# Altium integrated library inductor-neosid.IntLib: 250 symbols
Pins are listed as number, name and electrical type; pins without a type are passive.

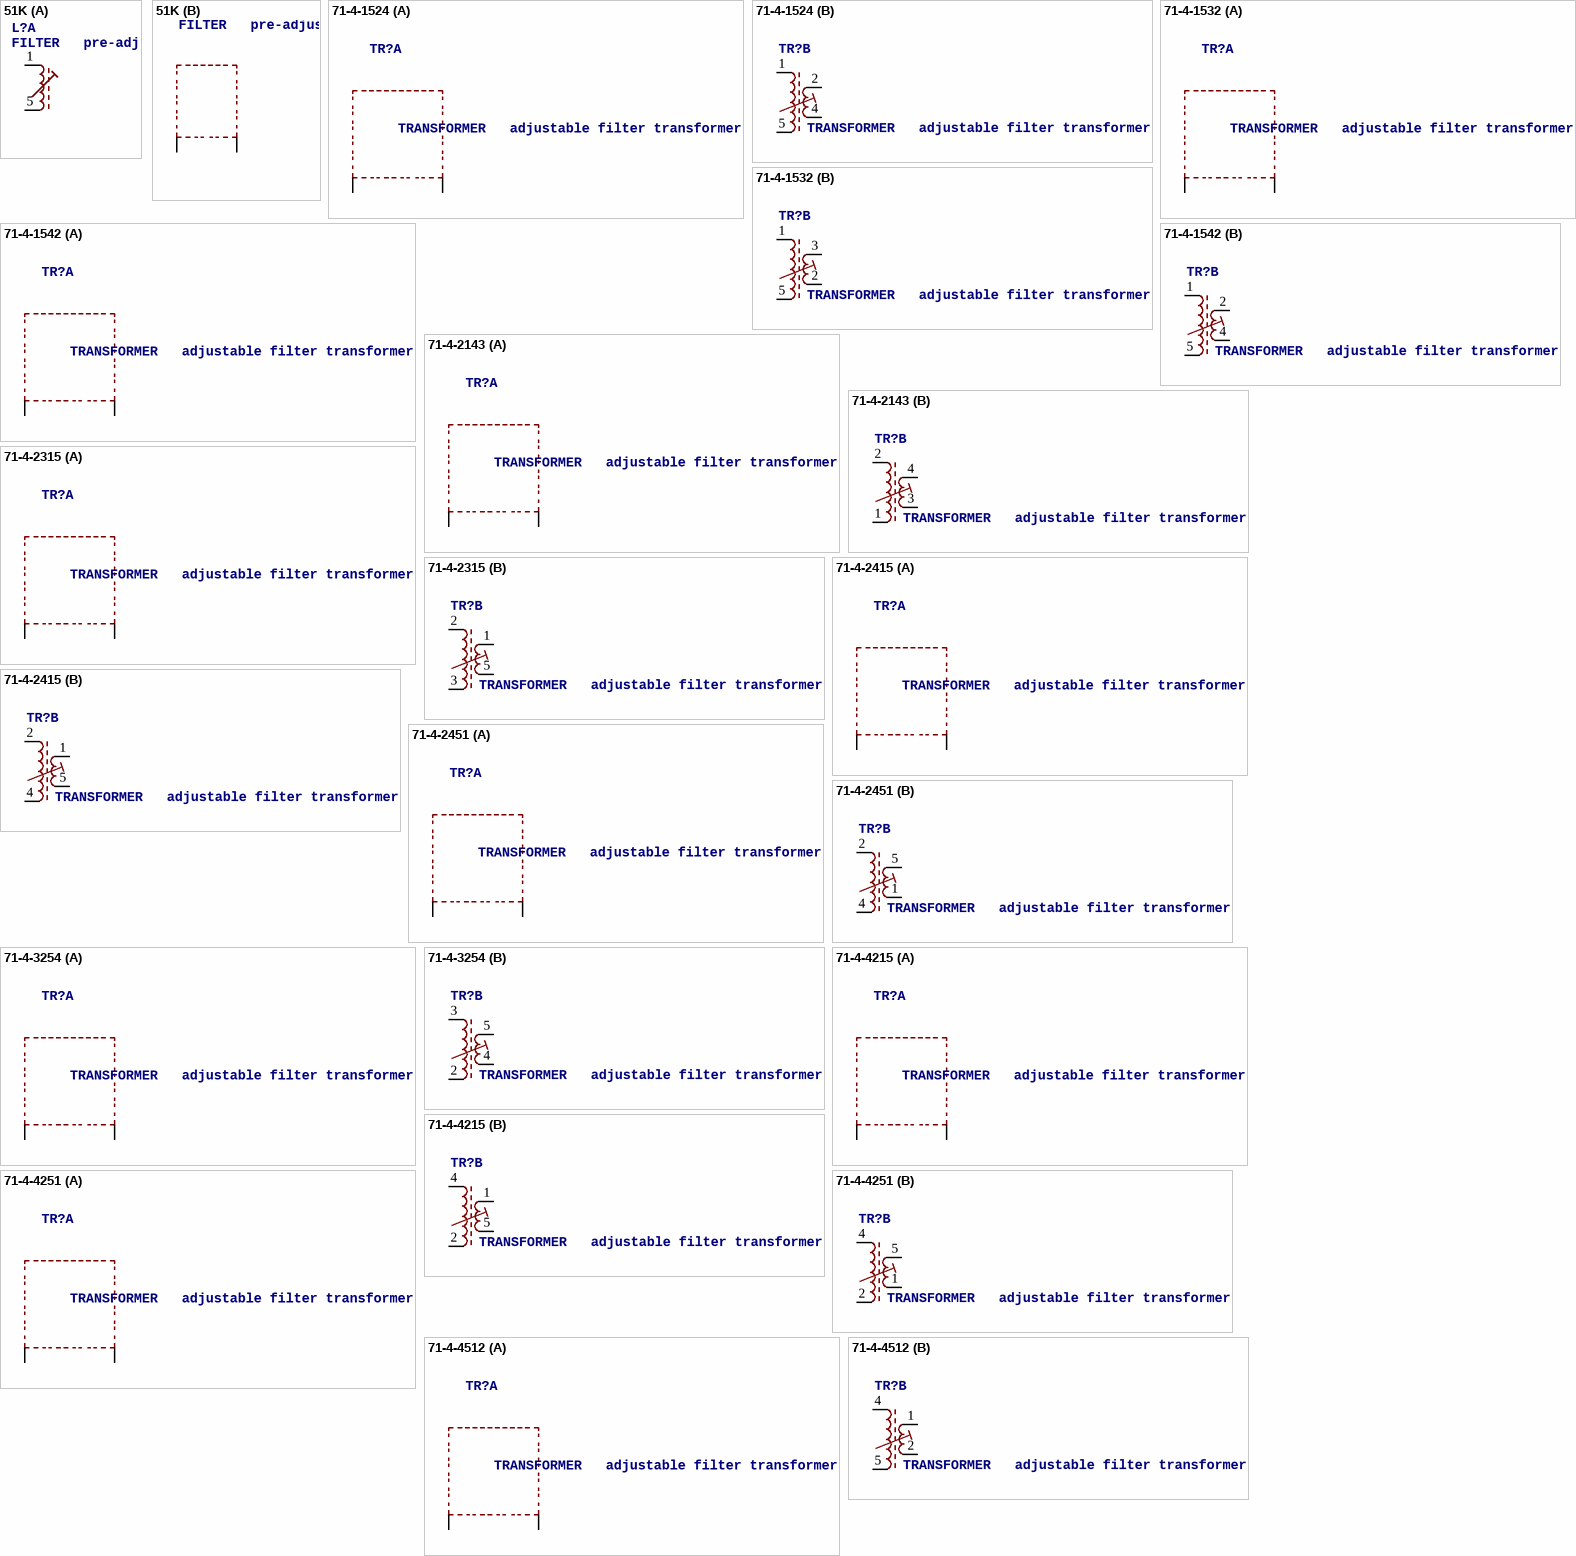
[diagram p0: symbols 51K to 71-4-4512]

## 51K
designator L?, comment FILTER   pre-adjusted RF filter, type K, standard value E-12
OC_FARNELL: unknown; OC_NEWARK: unknown
footprint 71K
part A pins: 1 A, 5 E
part B pins: S1 S2, S2 S1

## 71-4-1524
designator TR?, comment TRANSFORMER   adjustable filter transformer
OC_FARNELL: unknown; OC_NEWARK: unknown
footprint 71-5
part A pins: S1, S2
part B pins: 1 A1, 2 A2, 4 E2, 5 E1

## 71-4-1532
designator TR?, comment TRANSFORMER   adjustable filter transformer
OC_FARNELL: unknown; OC_NEWARK: unknown
footprint 71-5
part A pins: S1, S2
part B pins: 1 A1, 2 E2, 3 A2, 5 E1

## 71-4-1542
designator TR?, comment TRANSFORMER   adjustable filter transformer
OC_FARNELL: unknown; OC_NEWARK: unknown
footprint 71-5
part A pins: S1, S2
part B pins: 1 A1, 2 A2, 4 E2, 5 E1

## 71-4-2143
designator TR?, comment TRANSFORMER   adjustable filter transformer
OC_FARNELL: unknown; OC_NEWARK: unknown
footprint 71-5
part A pins: S1, S2
part B pins: 1 E1, 2 A1, 3 E2, 4 A2

## 71-4-2315
designator TR?, comment TRANSFORMER   adjustable filter transformer
OC_FARNELL: unknown; OC_NEWARK: unknown
footprint 71-5
part A pins: S1, S2
part B pins: 1 A2, 2 A1, 3 E1, 5 E2

## 71-4-2415
designator TR?, comment TRANSFORMER   adjustable filter transformer
OC_FARNELL: unknown; OC_NEWARK: unknown
footprint 71-5
part A pins: S1, S2
part B pins: 1 A2, 2 A1, 4 E1, 5 E2

## 71-4-2451
designator TR?, comment TRANSFORMER   adjustable filter transformer
OC_FARNELL: unknown; OC_NEWARK: unknown
footprint 71-5
part A pins: S1, S2
part B pins: 1 E2, 2 A1, 4 E1, 5 A2

## 71-4-3254
designator TR?, comment TRANSFORMER   adjustable filter transformer
OC_FARNELL: unknown; OC_NEWARK: unknown
footprint 71-5
part A pins: S1, S2
part B pins: 2 E1, 3 A1, 4 E2, 5 A2

## 71-4-4215
designator TR?, comment TRANSFORMER   adjustable filter transformer
OC_FARNELL: unknown; OC_NEWARK: unknown
footprint 71-5
part A pins: S1, S2
part B pins: 1 A2, 2 E1, 4 A1, 5 E2

## 71-4-4251
designator TR?, comment TRANSFORMER   adjustable filter transformer
OC_FARNELL: unknown; OC_NEWARK: unknown
footprint 71-5
part A pins: S1, S2
part B pins: 1 E2, 2 E1, 4 A1, 5 A2

## 71-4-4512
designator TR?, comment TRANSFORMER   adjustable filter transformer
OC_FARNELL: unknown; OC_NEWARK: unknown
footprint 71-5
part A pins: S1, S2
part B pins: 1 A2, 2 E2, 4 A1, 5 E1

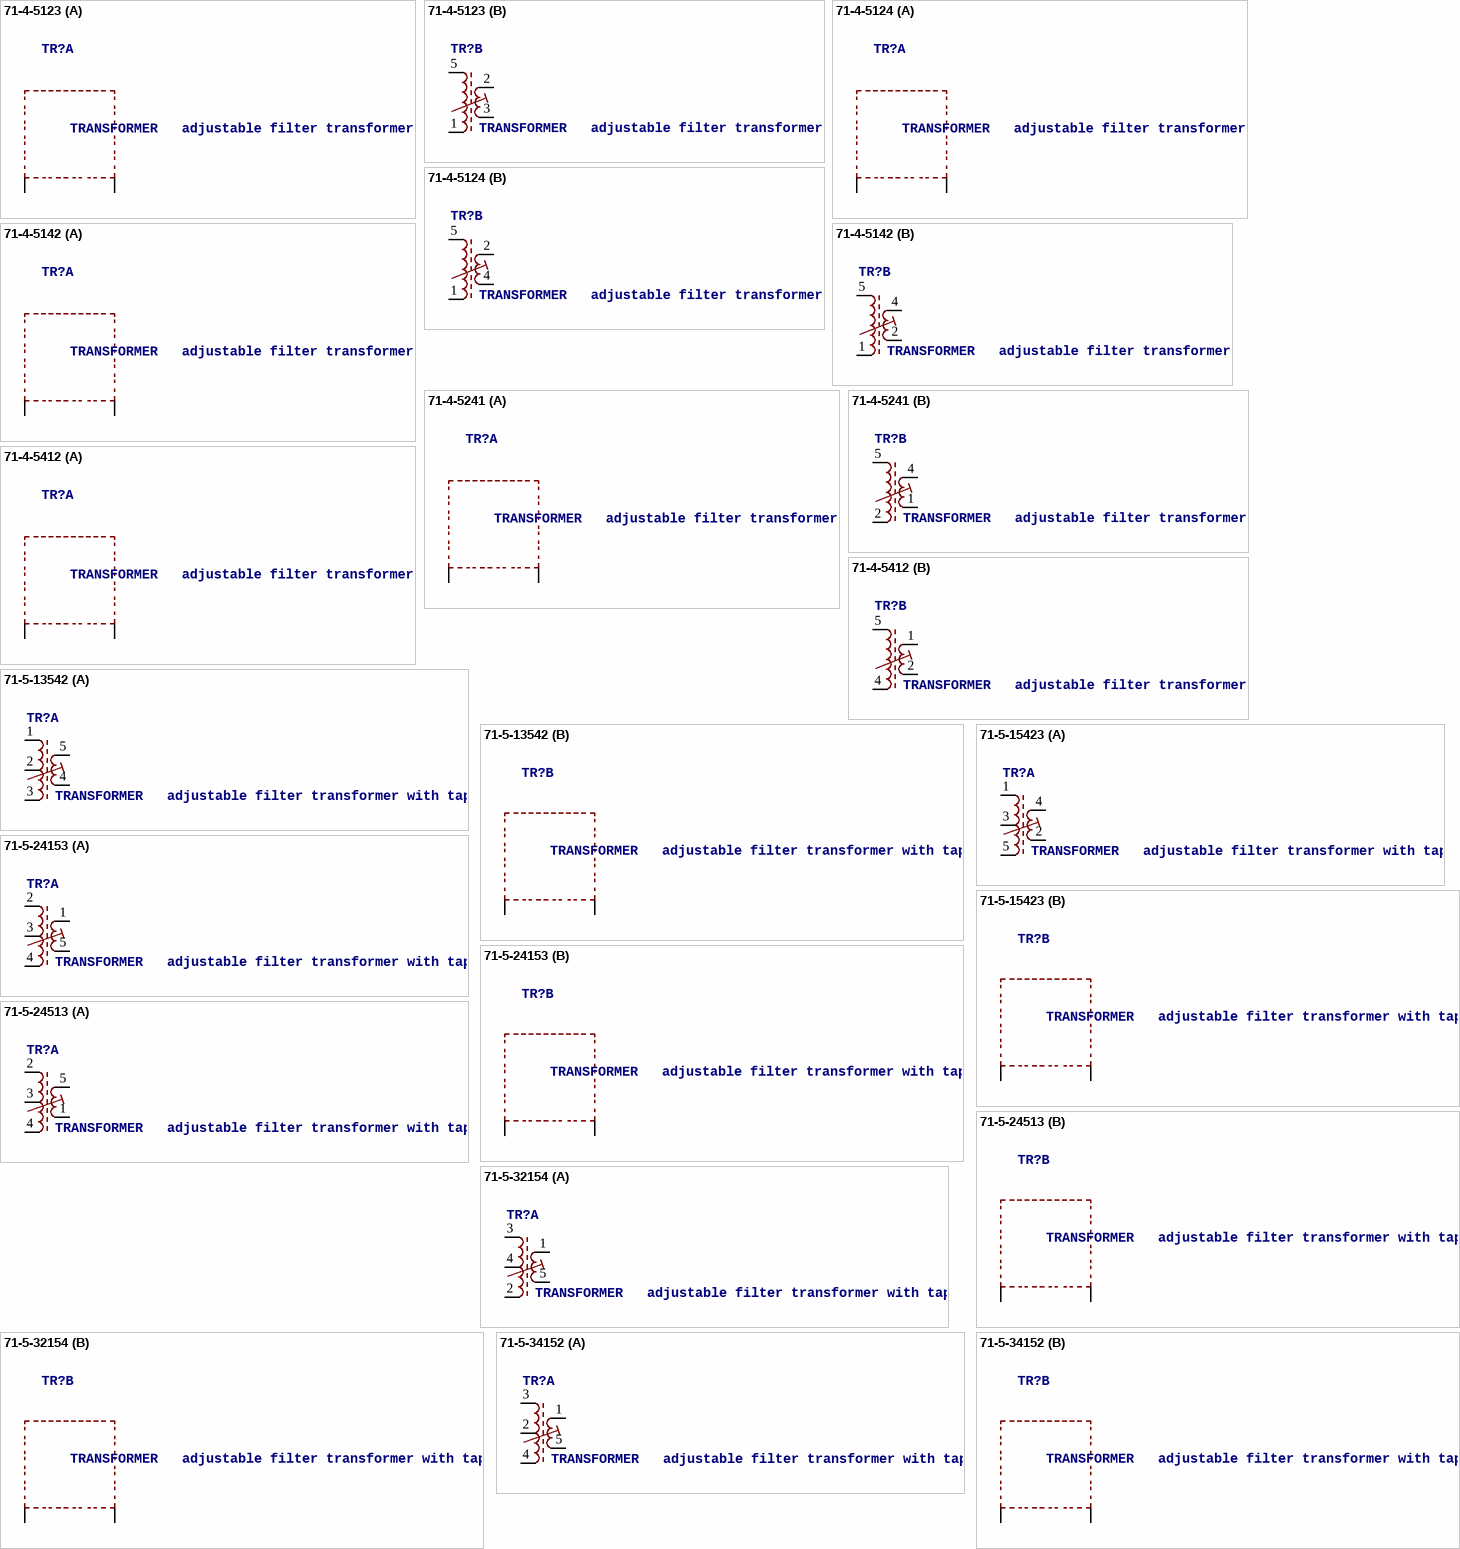
[diagram p1: symbols 71-4-5123 to 71-5-34152]

## 71-4-5123
designator TR?, comment TRANSFORMER   adjustable filter transformer
OC_FARNELL: unknown; OC_NEWARK: unknown
footprint 71-5
part A pins: S1, S2
part B pins: 1 E1, 2 A2, 3 E2, 5 A1

## 71-4-5124
designator TR?, comment TRANSFORMER   adjustable filter transformer
OC_FARNELL: unknown; OC_NEWARK: unknown
footprint 71-5
part A pins: S1, S2
part B pins: 1 E1, 2 A2, 4 E2, 5 A1

## 71-4-5142
designator TR?, comment TRANSFORMER   adjustable filter transformer
OC_FARNELL: unknown; OC_NEWARK: unknown
footprint 71-5
part A pins: S1, S2
part B pins: 1 E1, 2 E2, 4 A2, 5 A1

## 71-4-5241
designator TR?, comment TRANSFORMER   adjustable filter transformer
OC_FARNELL: unknown; OC_NEWARK: unknown
footprint 71-5
part A pins: S1, S2
part B pins: 1 E2, 2 E1, 4 A2, 5 A1

## 71-4-5412
designator TR?, comment TRANSFORMER   adjustable filter transformer
OC_FARNELL: unknown; OC_NEWARK: unknown
footprint 71-5
part A pins: S1, S2
part B pins: 1 A2, 2 E2, 4 E1, 5 A1

## 71-5-13542
designator TR?, comment TRANSFORMER   adjustable filter transformer with tap
OC_FARNELL: unknown; OC_NEWARK: unknown
footprint 71-5
part A pins: 1 A1, 2 Z, 3 E1, 4 E2, 5 A2
part B pins: S1, S2

## 71-5-15423
designator TR?, comment TRANSFORMER   adjustable filter transformer with tap
OC_FARNELL: unknown; OC_NEWARK: unknown
footprint 71-5
part A pins: 1 A1, 2 E2, 3 Z, 4 A2, 5 E1
part B pins: S1, S2

## 71-5-24153
designator TR?, comment TRANSFORMER   adjustable filter transformer with tap
OC_FARNELL: unknown; OC_NEWARK: unknown
footprint 71-5
part A pins: 1 A2, 2 A1, 3 Z, 4 E1, 5 E2
part B pins: S1, S2

## 71-5-24513
designator TR?, comment TRANSFORMER   adjustable filter transformer with tap
OC_FARNELL: unknown; OC_NEWARK: unknown
footprint 71-5
part A pins: 1 E2, 2 A1, 3 Z, 4 E1, 5 A2
part B pins: S1, S2

## 71-5-32154
designator TR?, comment TRANSFORMER   adjustable filter transformer with tap
OC_FARNELL: unknown; OC_NEWARK: unknown
footprint 71-5
part A pins: 1 A2, 2 E1, 3 A1, 4 Z, 5 E2
part B pins: S1, S2

## 71-5-34152
designator TR?, comment TRANSFORMER   adjustable filter transformer with tap
OC_FARNELL: unknown; OC_NEWARK: unknown
footprint 71-5
part A pins: 1 A2, 2 Z, 3 A1, 4 E1, 5 E2
part B pins: S1, S2

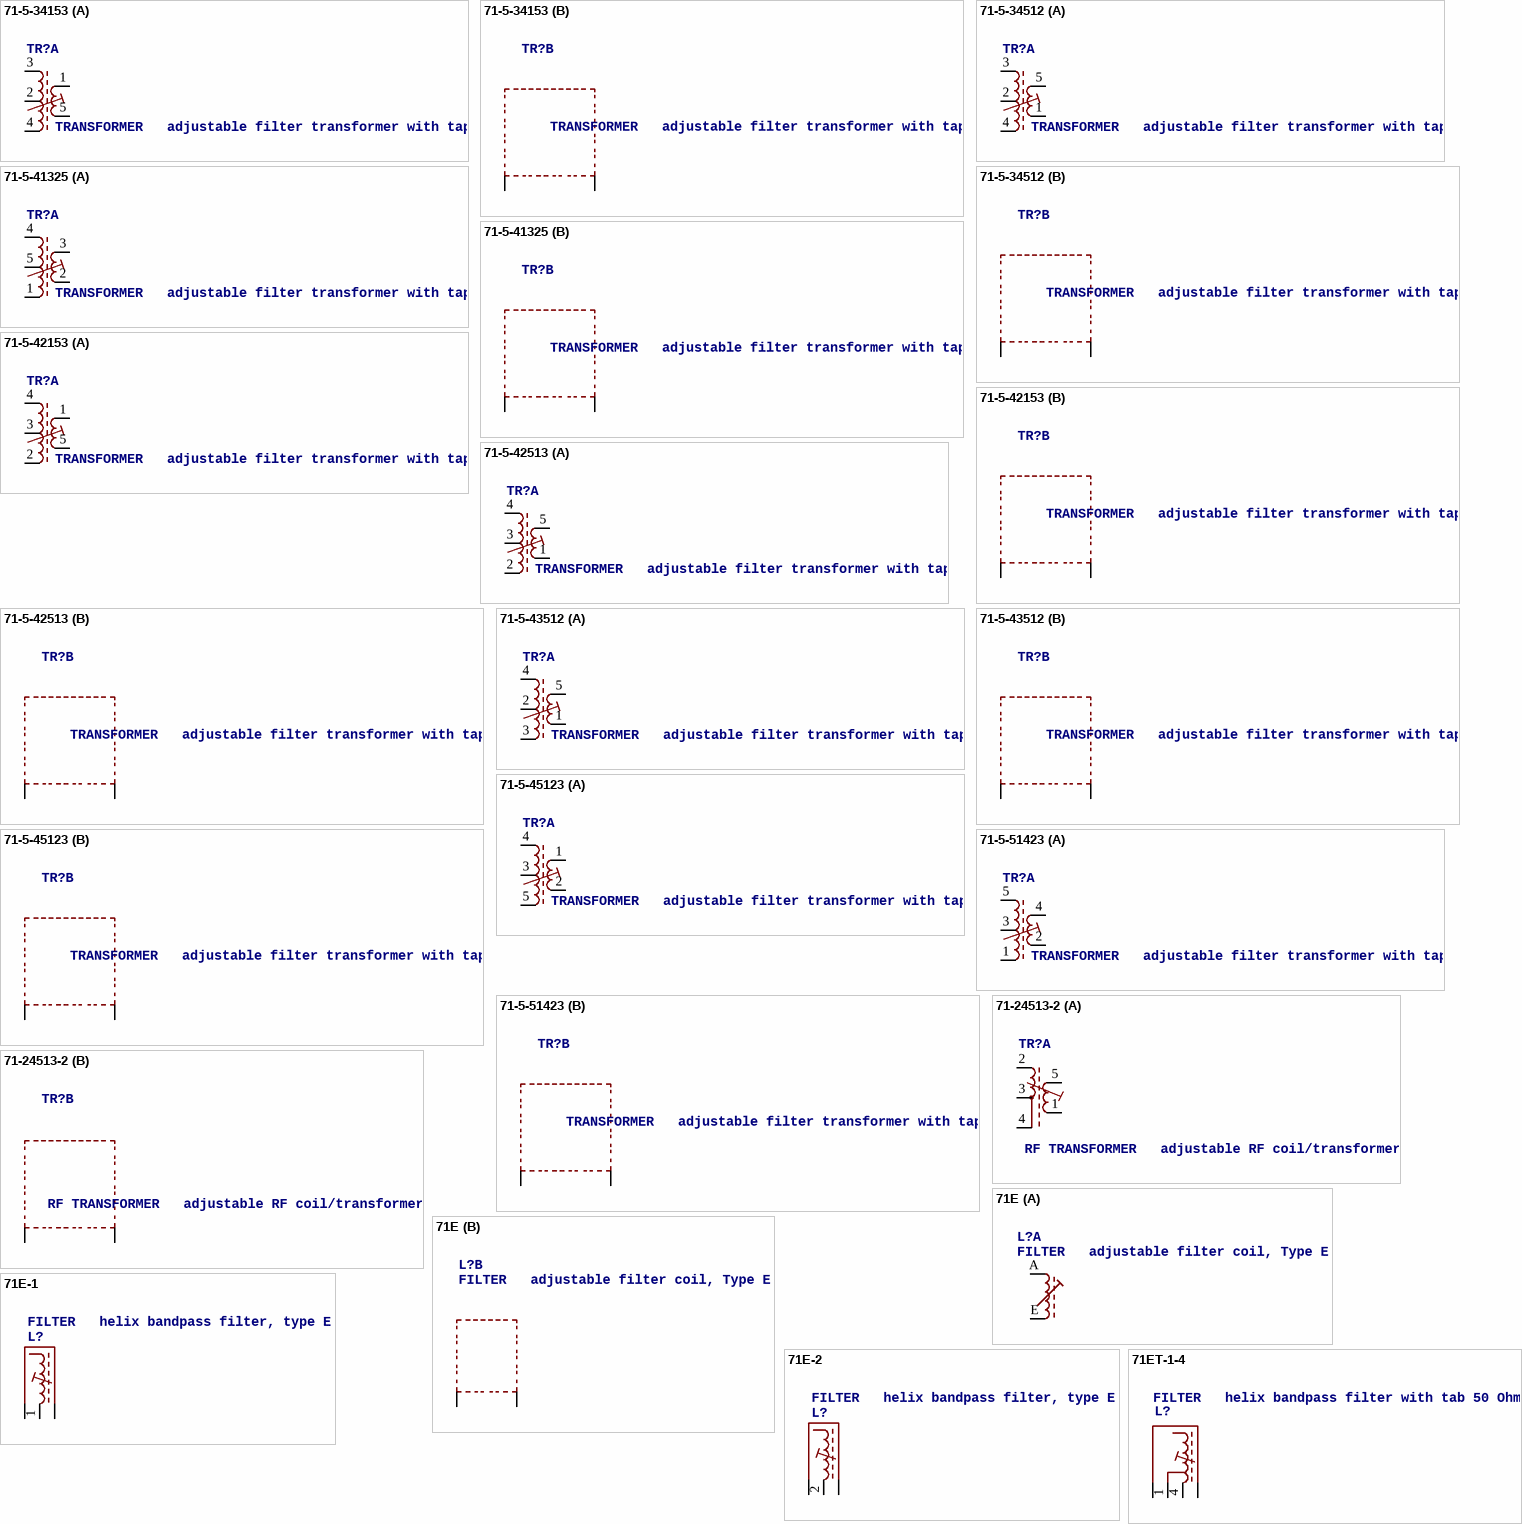
[diagram p2: symbols 71-5-34153 to 71ET-1-4]

## 71-5-34153
designator TR?, comment TRANSFORMER   adjustable filter transformer with tap
OC_FARNELL: unknown; OC_NEWARK: unknown
footprint 71-5
part A pins: 1 A2, 2 Z, 3 A1, 4 E1, 5 E2
part B pins: S1, S2

## 71-5-34512
designator TR?, comment TRANSFORMER   adjustable filter transformer with tap
OC_FARNELL: unknown; OC_NEWARK: unknown
footprint 71-5
part A pins: 1 E2, 2 Z, 3 A1, 4 E1, 5 A2
part B pins: S1, S2

## 71-5-41325
designator TR?, comment TRANSFORMER   adjustable filter transformer with tap
OC_FARNELL: unknown; OC_NEWARK: unknown
footprint 71-5
part A pins: 1 E1, 2 E2, 3 A2, 4 A1, 5 Z
part B pins: S1, S2

## 71-5-42153
designator TR?, comment TRANSFORMER   adjustable filter transformer with tap
OC_FARNELL: unknown; OC_NEWARK: unknown
footprint 71-5
part A pins: 1 A2, 2 E1, 3 Z, 4 A1, 5 E2
part B pins: S1, S2

## 71-5-42513
designator TR?, comment TRANSFORMER   adjustable filter transformer with tap
OC_FARNELL: unknown; OC_NEWARK: unknown
footprint 71-5
part A pins: 1 E2, 2 E1, 3 Z, 4 A1, 5 A2
part B pins: S1, S2

## 71-5-43512
designator TR?, comment TRANSFORMER   adjustable filter transformer with tap
OC_FARNELL: unknown; OC_NEWARK: unknown
footprint 71-5
part A pins: 1 E2, 2 Z, 3 E1, 4 A1, 5 A2
part B pins: S1, S2

## 71-5-45123
designator TR?, comment TRANSFORMER   adjustable filter transformer with tap
OC_FARNELL: unknown; OC_NEWARK: unknown
footprint 71-5
part A pins: 1 A2, 2 E2, 3 Z, 4 A1, 5 E1
part B pins: S1, S2

## 71-5-51423
designator TR?, comment TRANSFORMER   adjustable filter transformer with tap
OC_FARNELL: unknown; OC_NEWARK: unknown
footprint 71-5
part A pins: 1 E1, 2 E2, 3 Z, 4 A2, 5 A1
part B pins: S1, S2

## 71-24513-2
designator TR?, comment RF TRANSFORMER   adjustable RF coil/transformer
OC_FARNELL: unknown; OC_NEWARK: unknown
footprint 71-5
part A pins: 1 E2, 2 A1, 3 Z, 4 E1, 5 A2
part B pins: S1, S2

## 71E
designator L?, comment FILTER   adjustable filter coil, Type E
OC_FARNELL: unknown; OC_NEWARK: unknown
footprint 71E
part A pins: A, E
part B pins: S1, S2

## 71E-1
designator L?, comment FILTER   helix bandpass filter, type E
OC_FARNELL: unknown; OC_NEWARK: unknown
footprint 71-5
pins: 1 IO, S1, S2

## 71E-2
designator L?, comment FILTER   helix bandpass filter, type E
OC_FARNELL: unknown; OC_NEWARK: unknown
footprint 71-5
pins: 2 IO, S1, S2

## 71ET-1-4
designator L?, comment FILTER   helix bandpass filter with tab 50 Ohm
OC_FARNELL: unknown; OC_NEWARK: unknown
footprint 71-5
pins: 1 IN, 4 GND, S1, S2

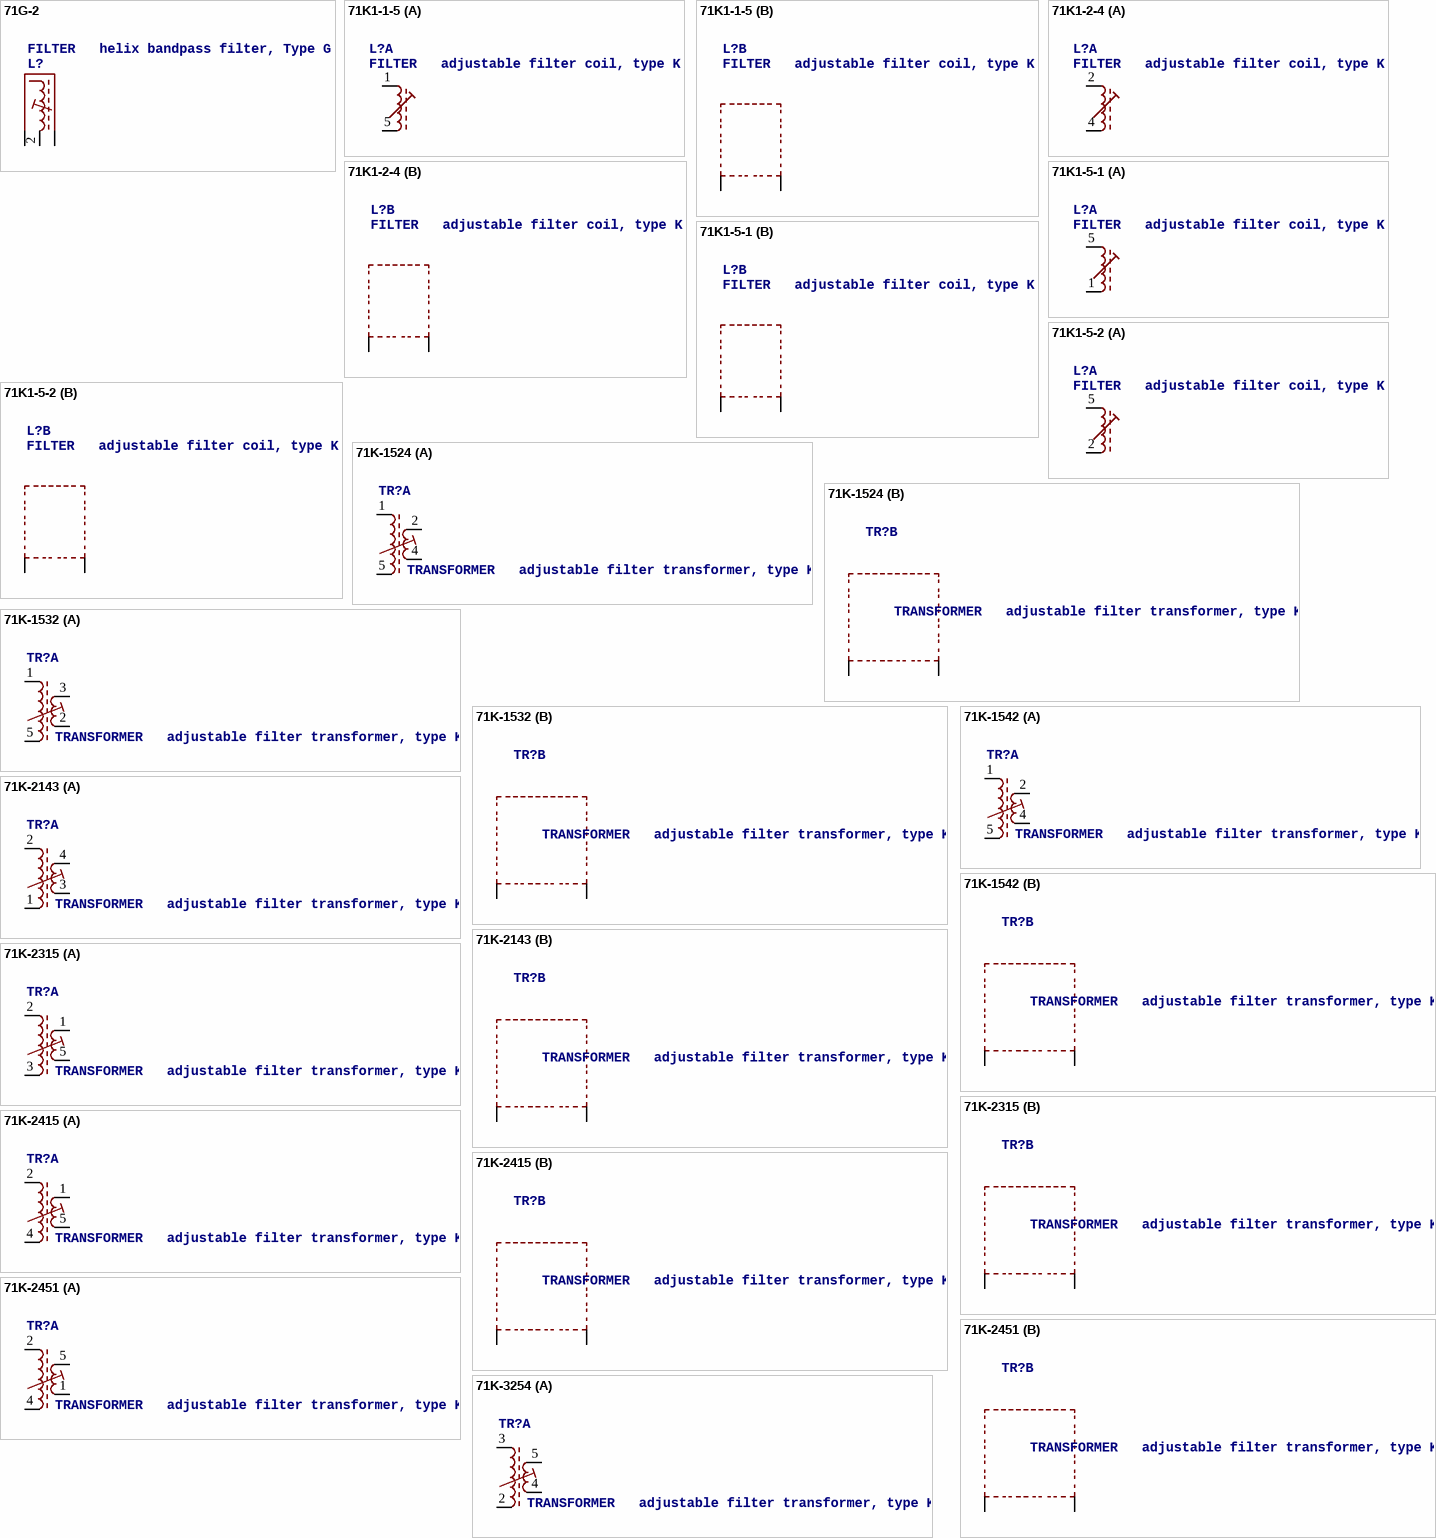
[diagram p3: symbols 71G-2 to 71K-3254]

## 71G-2
designator L?, comment FILTER   helix bandpass filter, Type G
OC_FARNELL: unknown; OC_NEWARK: unknown
footprint 71-5
pins: 2 IO, S1, S2

## 71K1-1-5
designator L?, comment FILTER   adjustable filter coil, type K
OC_FARNELL: unknown; OC_NEWARK: unknown
footprint 71K
part A pins: 1 A, 5 E
part B pins: S1, S2

## 71K1-2-4
designator L?, comment FILTER   adjustable filter coil, type K
OC_FARNELL: unknown; OC_NEWARK: unknown
footprint 71K
part A pins: 2 A, 4 E
part B pins: S1, S2

## 71K1-5-1
designator L?, comment FILTER   adjustable filter coil, type K
OC_FARNELL: unknown; OC_NEWARK: unknown
footprint 71K
part A pins: 1 E, 5 A
part B pins: S1, S2

## 71K1-5-2
designator L?, comment FILTER   adjustable filter coil, type K
OC_FARNELL: unknown; OC_NEWARK: unknown
footprint 71K
part A pins: 2 E, 5 A
part B pins: S1, S2

## 71K-1524
designator TR?, comment TRANSFORMER   adjustable filter transformer, type K
OC_FARNELL: unknown; OC_NEWARK: unknown
footprint 71K
part A pins: 1 A1, 2 A2, 4 E2, 5 E1
part B pins: S1, S2

## 71K-1532
designator TR?, comment TRANSFORMER   adjustable filter transformer, type K
OC_FARNELL: unknown; OC_NEWARK: unknown
footprint 71K
part A pins: 1 A1, 2 E2, 3 A2, 5 E1
part B pins: S1, S2

## 71K-1542
designator TR?, comment TRANSFORMER   adjustable filter transformer, type K
OC_FARNELL: unknown; OC_NEWARK: unknown
footprint 71K
part A pins: 1 A1, 2 A2, 4 E2, 5 E1
part B pins: S1, S2

## 71K-2143
designator TR?, comment TRANSFORMER   adjustable filter transformer, type K
OC_FARNELL: unknown; OC_NEWARK: unknown
footprint 71K
part A pins: 1 E1, 2 A1, 3 E2, 4 A2
part B pins: S1, S2

## 71K-2315
designator TR?, comment TRANSFORMER   adjustable filter transformer, type K
OC_FARNELL: unknown; OC_NEWARK: unknown
footprint 71K
part A pins: 1 A2, 2 A1, 3 E1, 5 E2
part B pins: S1, S2

## 71K-2415
designator TR?, comment TRANSFORMER   adjustable filter transformer, type K
OC_FARNELL: unknown; OC_NEWARK: unknown
footprint 71K
part A pins: 1 A2, 2 A1, 4 E1, 5 E2
part B pins: S1, S2

## 71K-2451
designator TR?, comment TRANSFORMER   adjustable filter transformer, type K
OC_FARNELL: unknown; OC_NEWARK: unknown
footprint 71K
part A pins: 1 E2, 2 A1, 4 E1, 5 A2
part B pins: S1, S2

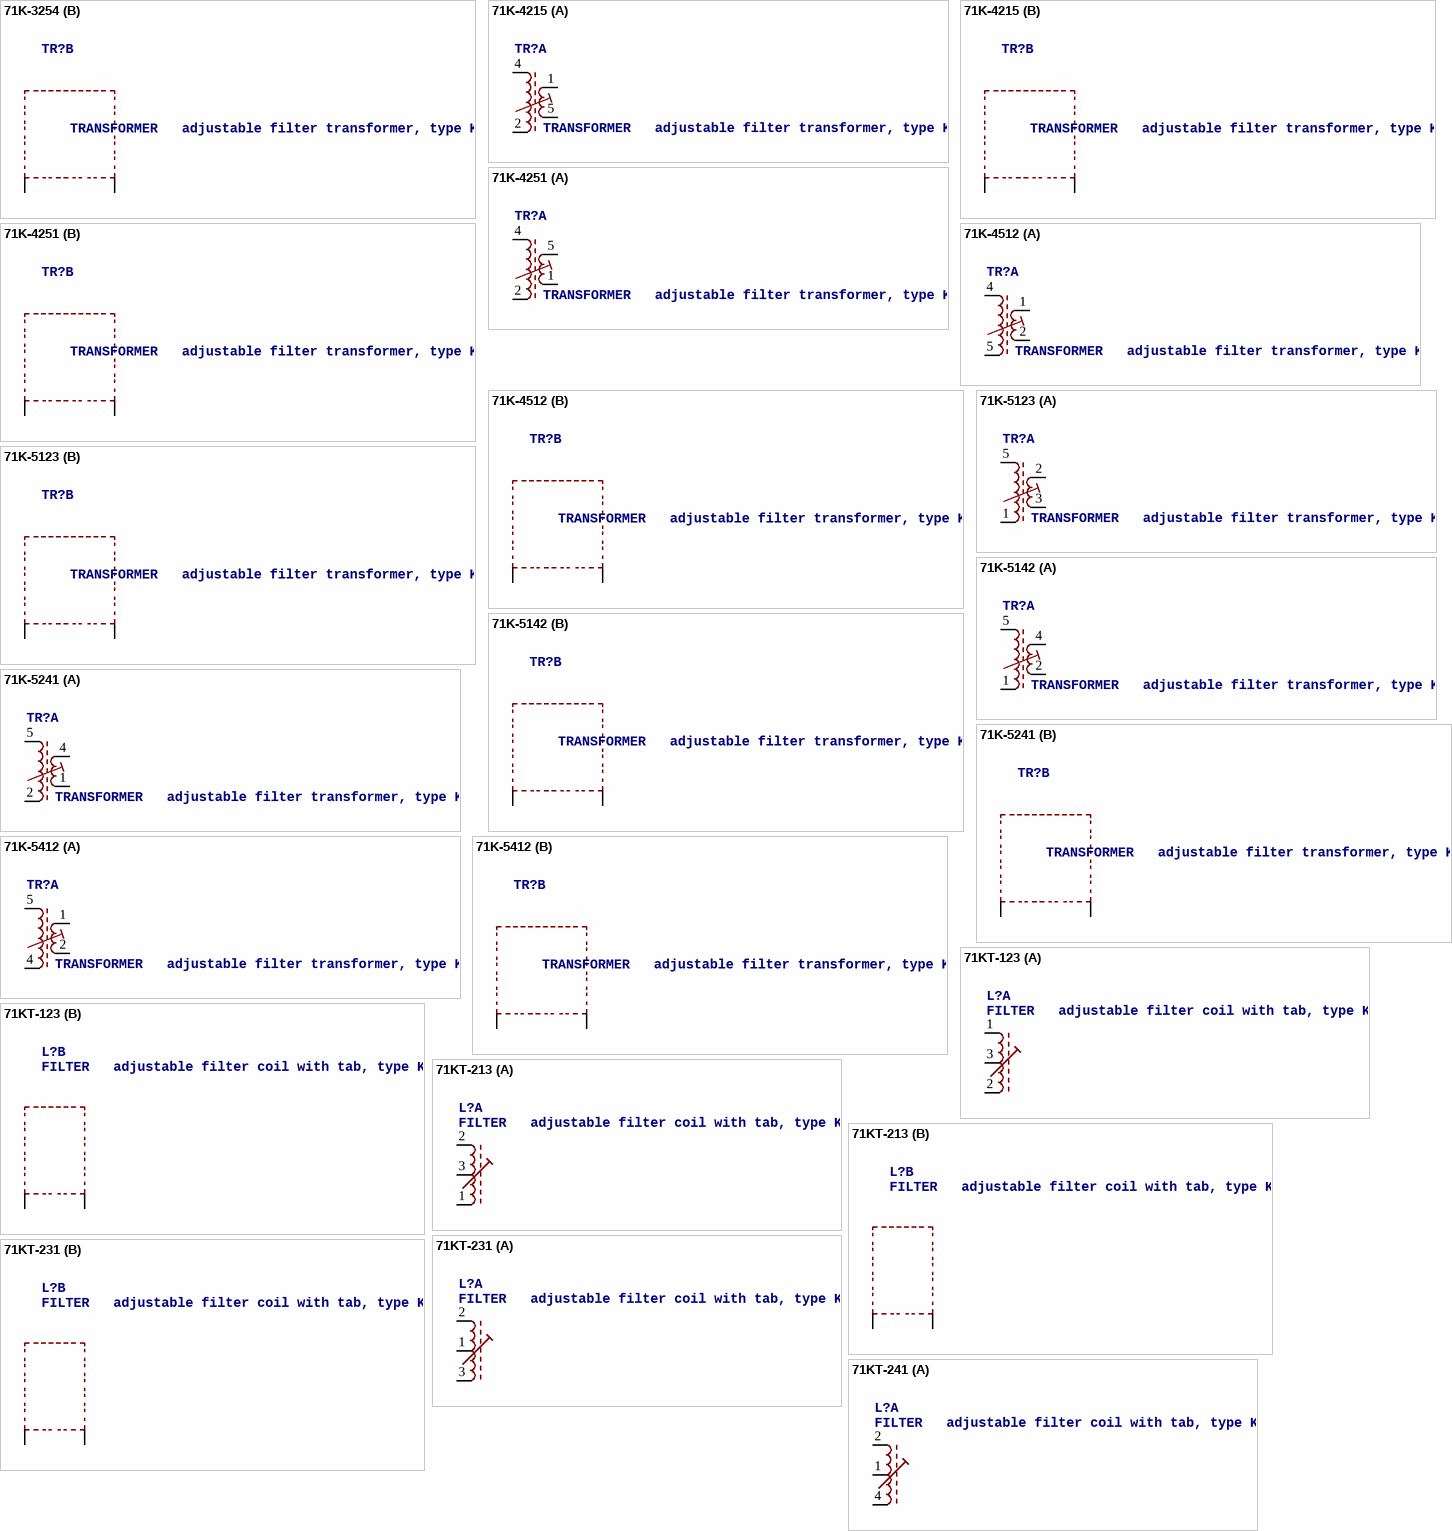
[diagram p4: symbols 71K-3254 to 71KT-241]

## 71K-3254
designator TR?, comment TRANSFORMER   adjustable filter transformer, type K
OC_FARNELL: unknown; OC_NEWARK: unknown
footprint 71K
part A pins: 2 E1, 3 A1, 4 E2, 5 A2
part B pins: S1, S2

## 71K-4215
designator TR?, comment TRANSFORMER   adjustable filter transformer, type K
OC_FARNELL: unknown; OC_NEWARK: unknown
footprint 71K
part A pins: 1 A2, 2 E1, 4 A1, 5 E2
part B pins: S1, S2

## 71K-4251
designator TR?, comment TRANSFORMER   adjustable filter transformer, type K
OC_FARNELL: unknown; OC_NEWARK: unknown
footprint 71K
part A pins: 1 E2, 2 E1, 4 A1, 5 A2
part B pins: S1, S2

## 71K-4512
designator TR?, comment TRANSFORMER   adjustable filter transformer, type K
OC_FARNELL: unknown; OC_NEWARK: unknown
footprint 71K
part A pins: 1 A2, 2 E2, 4 A1, 5 E1
part B pins: S1, S2

## 71K-5123
designator TR?, comment TRANSFORMER   adjustable filter transformer, type K
OC_FARNELL: unknown; OC_NEWARK: unknown
footprint 71K
part A pins: 1 E1, 2 A2, 3 E2, 5 A1
part B pins: S1, S2

## 71K-5142
designator TR?, comment TRANSFORMER   adjustable filter transformer, type K
OC_FARNELL: unknown; OC_NEWARK: unknown
footprint 71K
part A pins: 1 E1, 2 E2, 4 A2, 5 A1
part B pins: S1, S2

## 71K-5241
designator TR?, comment TRANSFORMER   adjustable filter transformer, type K
OC_FARNELL: unknown; OC_NEWARK: unknown
footprint 71K
part A pins: 1 E2, 2 E1, 4 A2, 5 A1
part B pins: S1, S2

## 71K-5412
designator TR?, comment TRANSFORMER   adjustable filter transformer, type K
OC_FARNELL: unknown; OC_NEWARK: unknown
footprint 71K
part A pins: 1 A2, 2 E2, 4 E1, 5 A1
part B pins: S1, S2

## 71KT-123
designator L?, comment FILTER   adjustable filter coil with tab, type K
OC_FARNELL: unknown; OC_NEWARK: unknown
footprint 71K
part A pins: 1 A, 2 E, 3 Z
part B pins: S1, S2

## 71KT-213
designator L?, comment FILTER   adjustable filter coil with tab, type K
OC_FARNELL: unknown; OC_NEWARK: unknown
footprint 71K
part A pins: 1 E, 2 A, 3 Z
part B pins: S1, S2

## 71KT-231
designator L?, comment FILTER   adjustable filter coil with tab, type K
OC_FARNELL: unknown; OC_NEWARK: unknown
footprint 71K
part A pins: 1 Z, 2 A, 3 E
part B pins: S1, S2

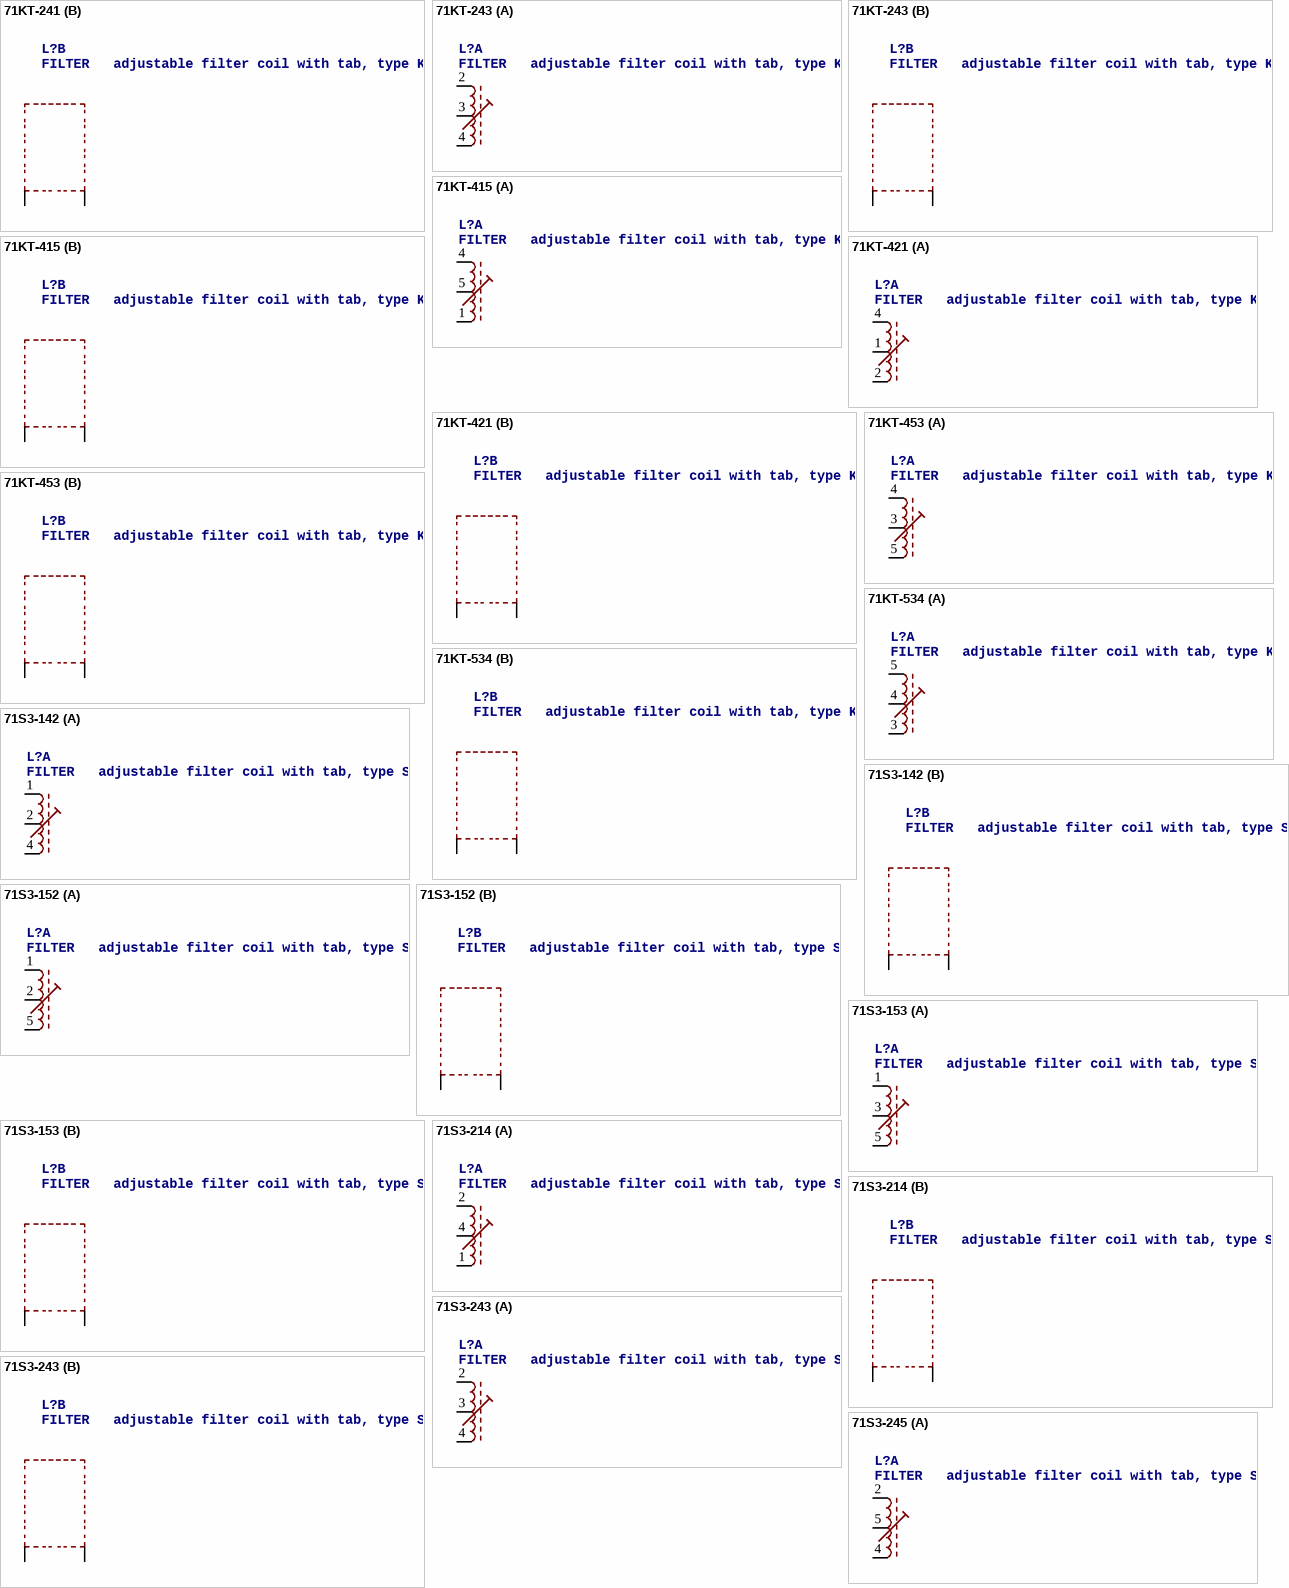
[diagram p5: symbols 71KT-241 to 71S3-245]

## 71KT-241
designator L?, comment FILTER   adjustable filter coil with tab, type K
OC_FARNELL: unknown; OC_NEWARK: unknown
footprint 71K
part A pins: 1 Z, 2 A, 4 E
part B pins: S1, S2

## 71KT-243
designator L?, comment FILTER   adjustable filter coil with tab, type K
OC_FARNELL: unknown; OC_NEWARK: unknown
footprint 71K
part A pins: 2 A, 3 Z, 4 E
part B pins: S1, S2

## 71KT-415
designator L?, comment FILTER   adjustable filter coil with tab, type K
OC_FARNELL: unknown; OC_NEWARK: unknown
footprint 71K
part A pins: 1 E, 4 A, 5 Z
part B pins: S1, S2

## 71KT-421
designator L?, comment FILTER   adjustable filter coil with tab, type K
OC_FARNELL: unknown; OC_NEWARK: unknown
footprint 71K
part A pins: 1 Z, 2 E, 4 A
part B pins: S1, S2

## 71KT-453
designator L?, comment FILTER   adjustable filter coil with tab, type K
OC_FARNELL: unknown; OC_NEWARK: unknown
footprint 71K
part A pins: 3 Z, 4 A, 5 E
part B pins: S1, S2

## 71KT-534
designator L?, comment FILTER   adjustable filter coil with tab, type K
OC_FARNELL: unknown; OC_NEWARK: unknown
footprint 71K
part A pins: 3 E, 4 Z, 5 A
part B pins: S1, S2

## 71S3-142
designator L?, comment FILTER   adjustable filter coil with tab, type S
OC_FARNELL: unknown; OC_NEWARK: unknown
footprint 71S
part A pins: 1 A, 2 Z, 4 E
part B pins: S1, S2

## 71S3-152
designator L?, comment FILTER   adjustable filter coil with tab, type S
OC_FARNELL: unknown; OC_NEWARK: unknown
footprint 71S
part A pins: 1 A, 2 Z, 5 E
part B pins: S1, S2

## 71S3-153
designator L?, comment FILTER   adjustable filter coil with tab, type S
OC_FARNELL: unknown; OC_NEWARK: unknown
footprint 71S
part A pins: 1 A, 3 Z, 5 E
part B pins: S1, S2

## 71S3-214
designator L?, comment FILTER   adjustable filter coil with tab, type S
OC_FARNELL: unknown; OC_NEWARK: unknown
footprint 71S
part A pins: 1 E, 2 A, 4 Z
part B pins: S1, S2

## 71S3-243
designator L?, comment FILTER   adjustable filter coil with tab, type S
OC_FARNELL: unknown; OC_NEWARK: unknown
footprint 71S
part A pins: 2 A, 3 Z, 4 E
part B pins: S1, S2

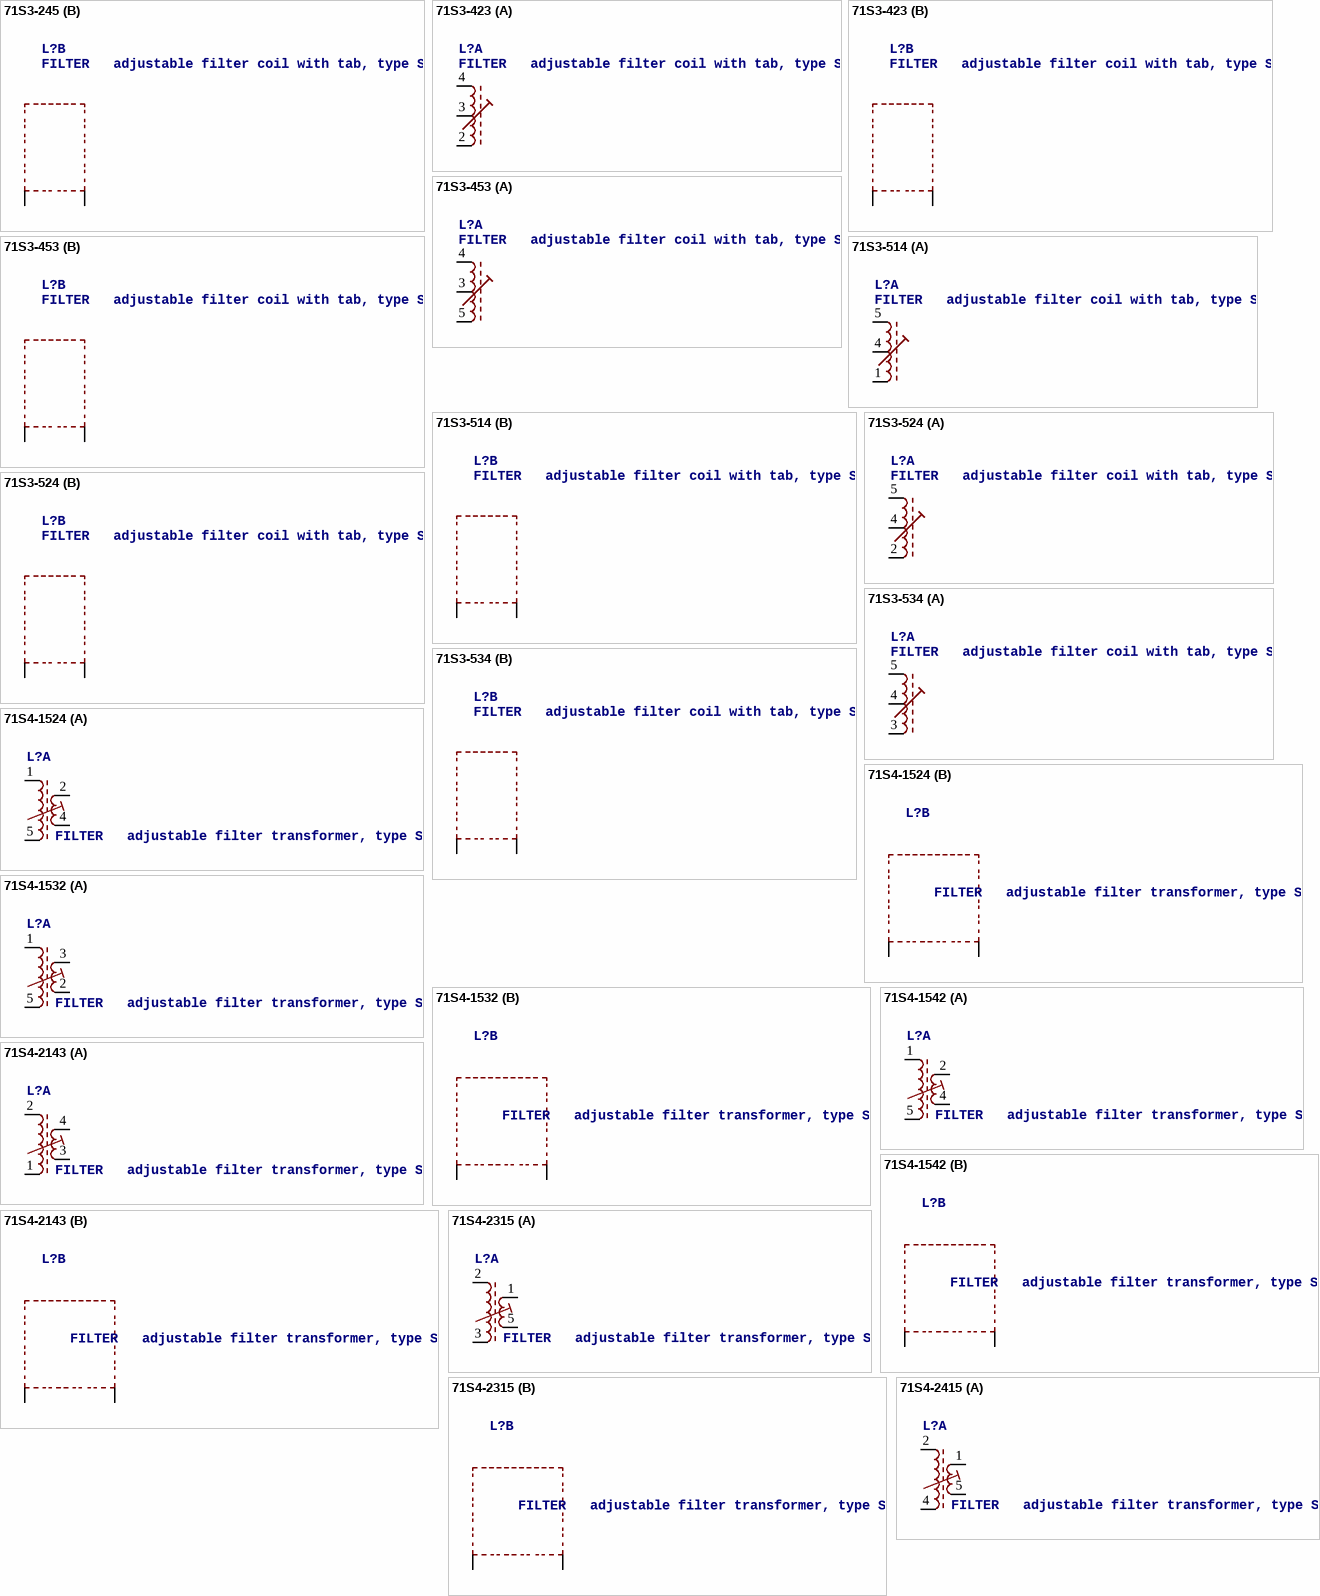
[diagram p6: symbols 71S3-245 to 71S4-2415]

## 71S3-245
designator L?, comment FILTER   adjustable filter coil with tab, type S
OC_FARNELL: unknown; OC_NEWARK: unknown
footprint 71S
part A pins: 2 A, 4 E, 5 Z
part B pins: S1, S2

## 71S3-423
designator L?, comment FILTER   adjustable filter coil with tab, type S
OC_FARNELL: unknown; OC_NEWARK: unknown
footprint 71S
part A pins: 2 E, 3 Z, 4 A
part B pins: S1, S2

## 71S3-453
designator L?, comment FILTER   adjustable filter coil with tab, type S
OC_FARNELL: unknown; OC_NEWARK: unknown
footprint 71S
part A pins: 3 Z, 4 A, 5 E
part B pins: S1, S2

## 71S3-514
designator L?, comment FILTER   adjustable filter coil with tab, type S
OC_FARNELL: unknown; OC_NEWARK: unknown
footprint 71S
part A pins: 1 E, 4 Z, 5 A
part B pins: S1, S2

## 71S3-524
designator L?, comment FILTER   adjustable filter coil with tab, type S
OC_FARNELL: unknown; OC_NEWARK: unknown
footprint 71S
part A pins: 2 E, 4 Z, 5 A
part B pins: S1, S2

## 71S3-534
designator L?, comment FILTER   adjustable filter coil with tab, type S
OC_FARNELL: unknown; OC_NEWARK: unknown
footprint 71S
part A pins: 3 E, 4 Z, 5 A
part B pins: S1, S2

## 71S4-1524
designator L?, comment FILTER   adjustable filter transformer, type S
OC_FARNELL: unknown; OC_NEWARK: unknown
footprint 71S
part A pins: 1 A1, 2 A2, 4 E2, 5 E1
part B pins: S1, S2

## 71S4-1532
designator L?, comment FILTER   adjustable filter transformer, type S
OC_FARNELL: unknown; OC_NEWARK: unknown
footprint 71S
part A pins: 1 A1, 2 E2, 3 A2, 5 E1
part B pins: S1, S2

## 71S4-1542
designator L?, comment FILTER   adjustable filter transformer, type S
OC_FARNELL: unknown; OC_NEWARK: unknown
footprint 71S
part A pins: 1 A1, 2 A2, 4 E2, 5 E1
part B pins: S1, S2

## 71S4-2143
designator L?, comment FILTER   adjustable filter transformer, type S
OC_FARNELL: unknown; OC_NEWARK: unknown
footprint 71S
part A pins: 1 E1, 2 A1, 3 E2, 4 A2
part B pins: S1, S2

## 71S4-2315
designator L?, comment FILTER   adjustable filter transformer, type S
OC_FARNELL: unknown; OC_NEWARK: unknown
footprint 71S
part A pins: 1 A2, 2 A1, 3 E1, 5 E2
part B pins: S1, S2

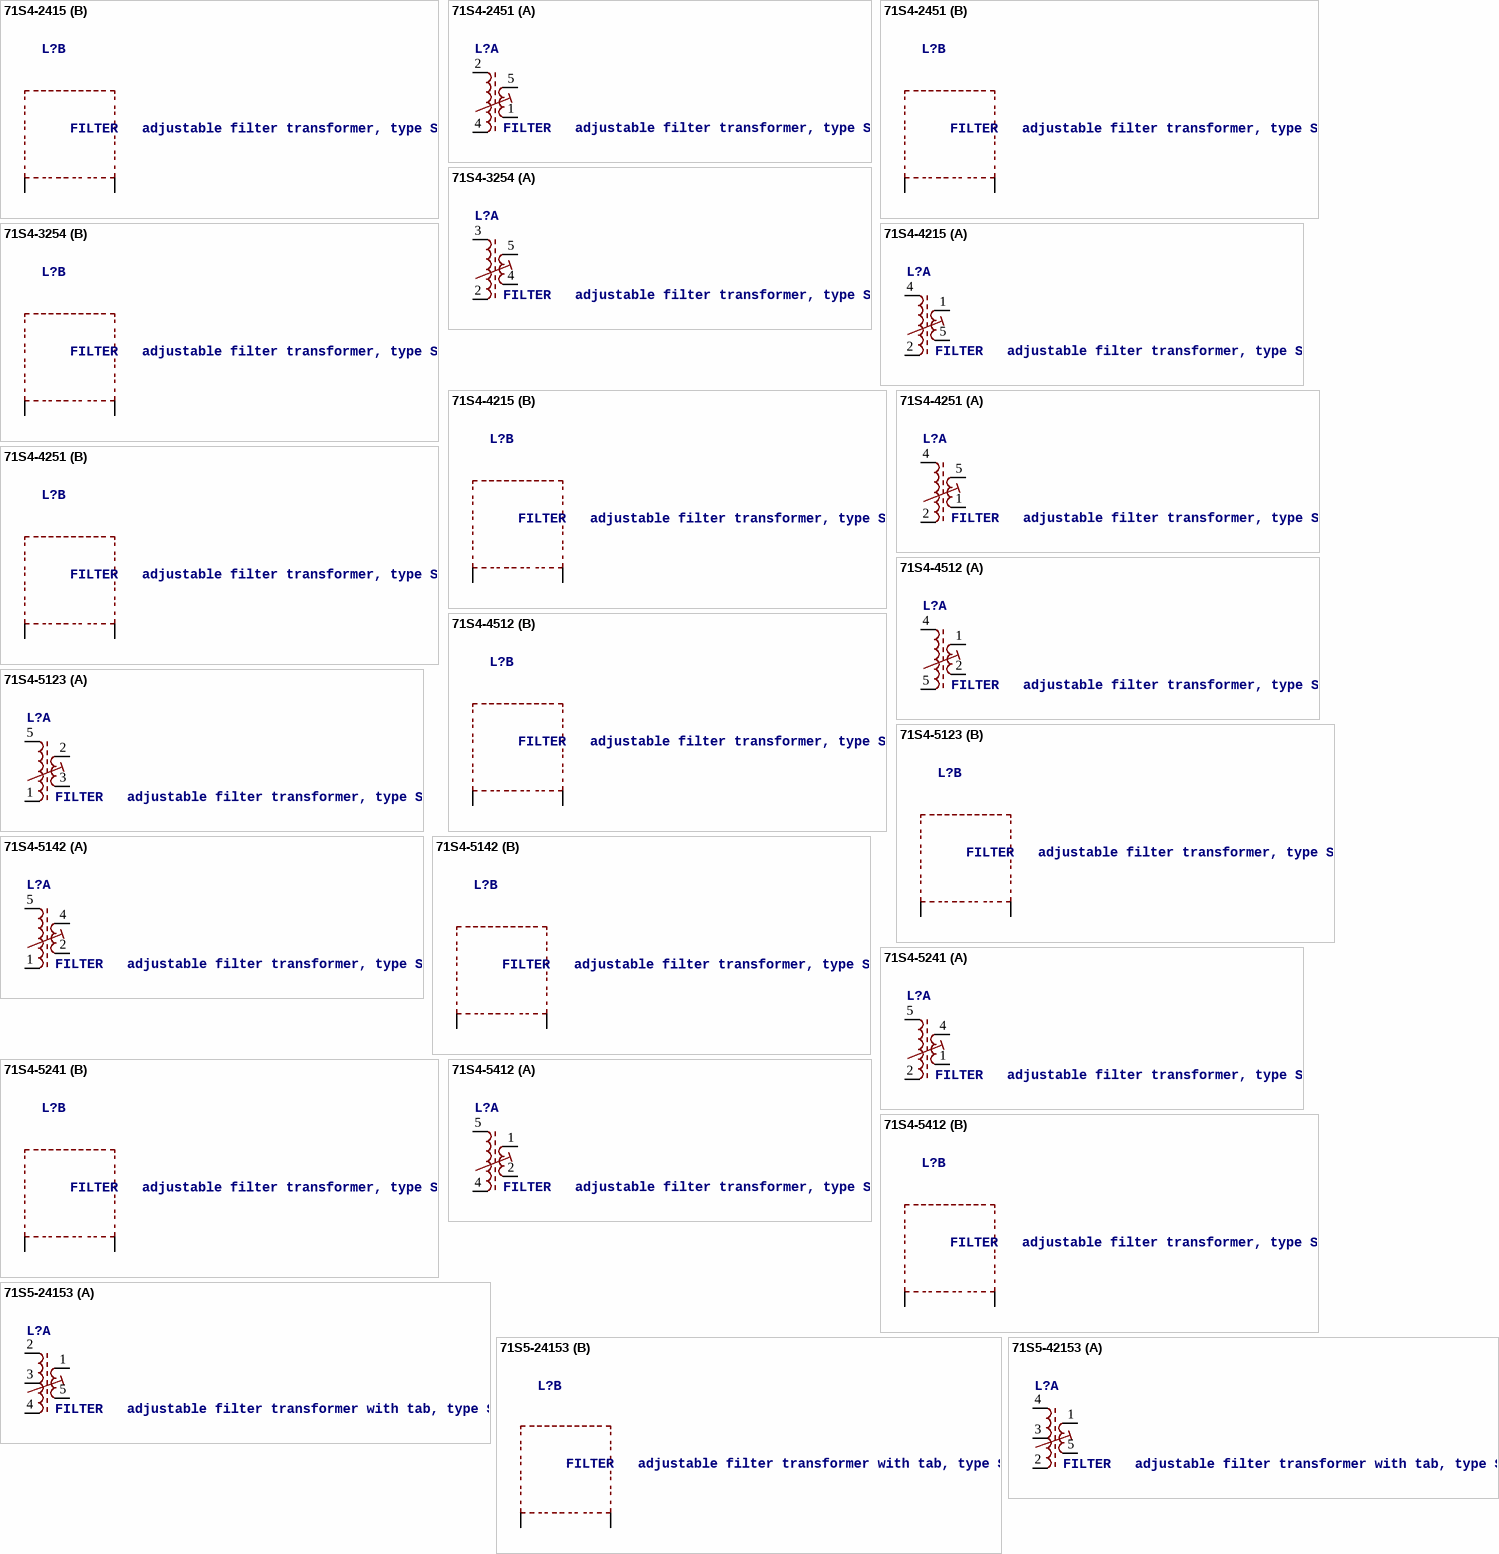
[diagram p7: symbols 71S4-2415 to 71S5-42153]

## 71S4-2415
designator L?, comment FILTER   adjustable filter transformer, type S
OC_FARNELL: unknown; OC_NEWARK: unknown
footprint 71S
part A pins: 1 A2, 2 A1, 4 E1, 5 E2
part B pins: S1, S2

## 71S4-2451
designator L?, comment FILTER   adjustable filter transformer, type S
OC_FARNELL: unknown; OC_NEWARK: unknown
footprint 71S
part A pins: 1 E2, 2 A1, 4 E1, 5 A2
part B pins: S1, S2

## 71S4-3254
designator L?, comment FILTER   adjustable filter transformer, type S
OC_FARNELL: unknown; OC_NEWARK: unknown
footprint 71S
part A pins: 2 E1, 3 A1, 4 E2, 5 A2
part B pins: S1, S2

## 71S4-4215
designator L?, comment FILTER   adjustable filter transformer, type S
OC_FARNELL: unknown; OC_NEWARK: unknown
footprint 71S
part A pins: 1 A2, 2 E1, 4 A1, 5 E2
part B pins: S1, S2

## 71S4-4251
designator L?, comment FILTER   adjustable filter transformer, type S
OC_FARNELL: unknown; OC_NEWARK: unknown
footprint 71S
part A pins: 1 E2, 2 E1, 4 A1, 5 A2
part B pins: S1, S2

## 71S4-4512
designator L?, comment FILTER   adjustable filter transformer, type S
OC_FARNELL: unknown; OC_NEWARK: unknown
footprint 71S
part A pins: 1 A2, 2 E2, 4 A1, 5 E1
part B pins: S1, S2

## 71S4-5123
designator L?, comment FILTER   adjustable filter transformer, type S
OC_FARNELL: unknown; OC_NEWARK: unknown
footprint 71S
part A pins: 1 E1, 2 A2, 3 E2, 5 A1
part B pins: S1, S2

## 71S4-5142
designator L?, comment FILTER   adjustable filter transformer, type S
OC_FARNELL: unknown; OC_NEWARK: unknown
footprint 71S
part A pins: 1 E1, 2 E2, 4 A2, 5 A1
part B pins: S1, S2

## 71S4-5241
designator L?, comment FILTER   adjustable filter transformer, type S
OC_FARNELL: unknown; OC_NEWARK: unknown
footprint 71S
part A pins: 1 E2, 2 E1, 4 A2, 5 A1
part B pins: S1, S2

## 71S4-5412
designator L?, comment FILTER   adjustable filter transformer, type S
OC_FARNELL: unknown; OC_NEWARK: unknown
footprint 71S
part A pins: 1 A2, 2 E2, 4 E1, 5 A1
part B pins: S1, S2

## 71S5-24153
designator L?, comment FILTER   adjustable filter transformer with tab, type S
OC_FARNELL: unknown; OC_NEWARK: unknown
footprint 71S
part A pins: 1 A2, 2 A1, 3 Z, 4 E1, 5 E2
part B pins: S1, S2

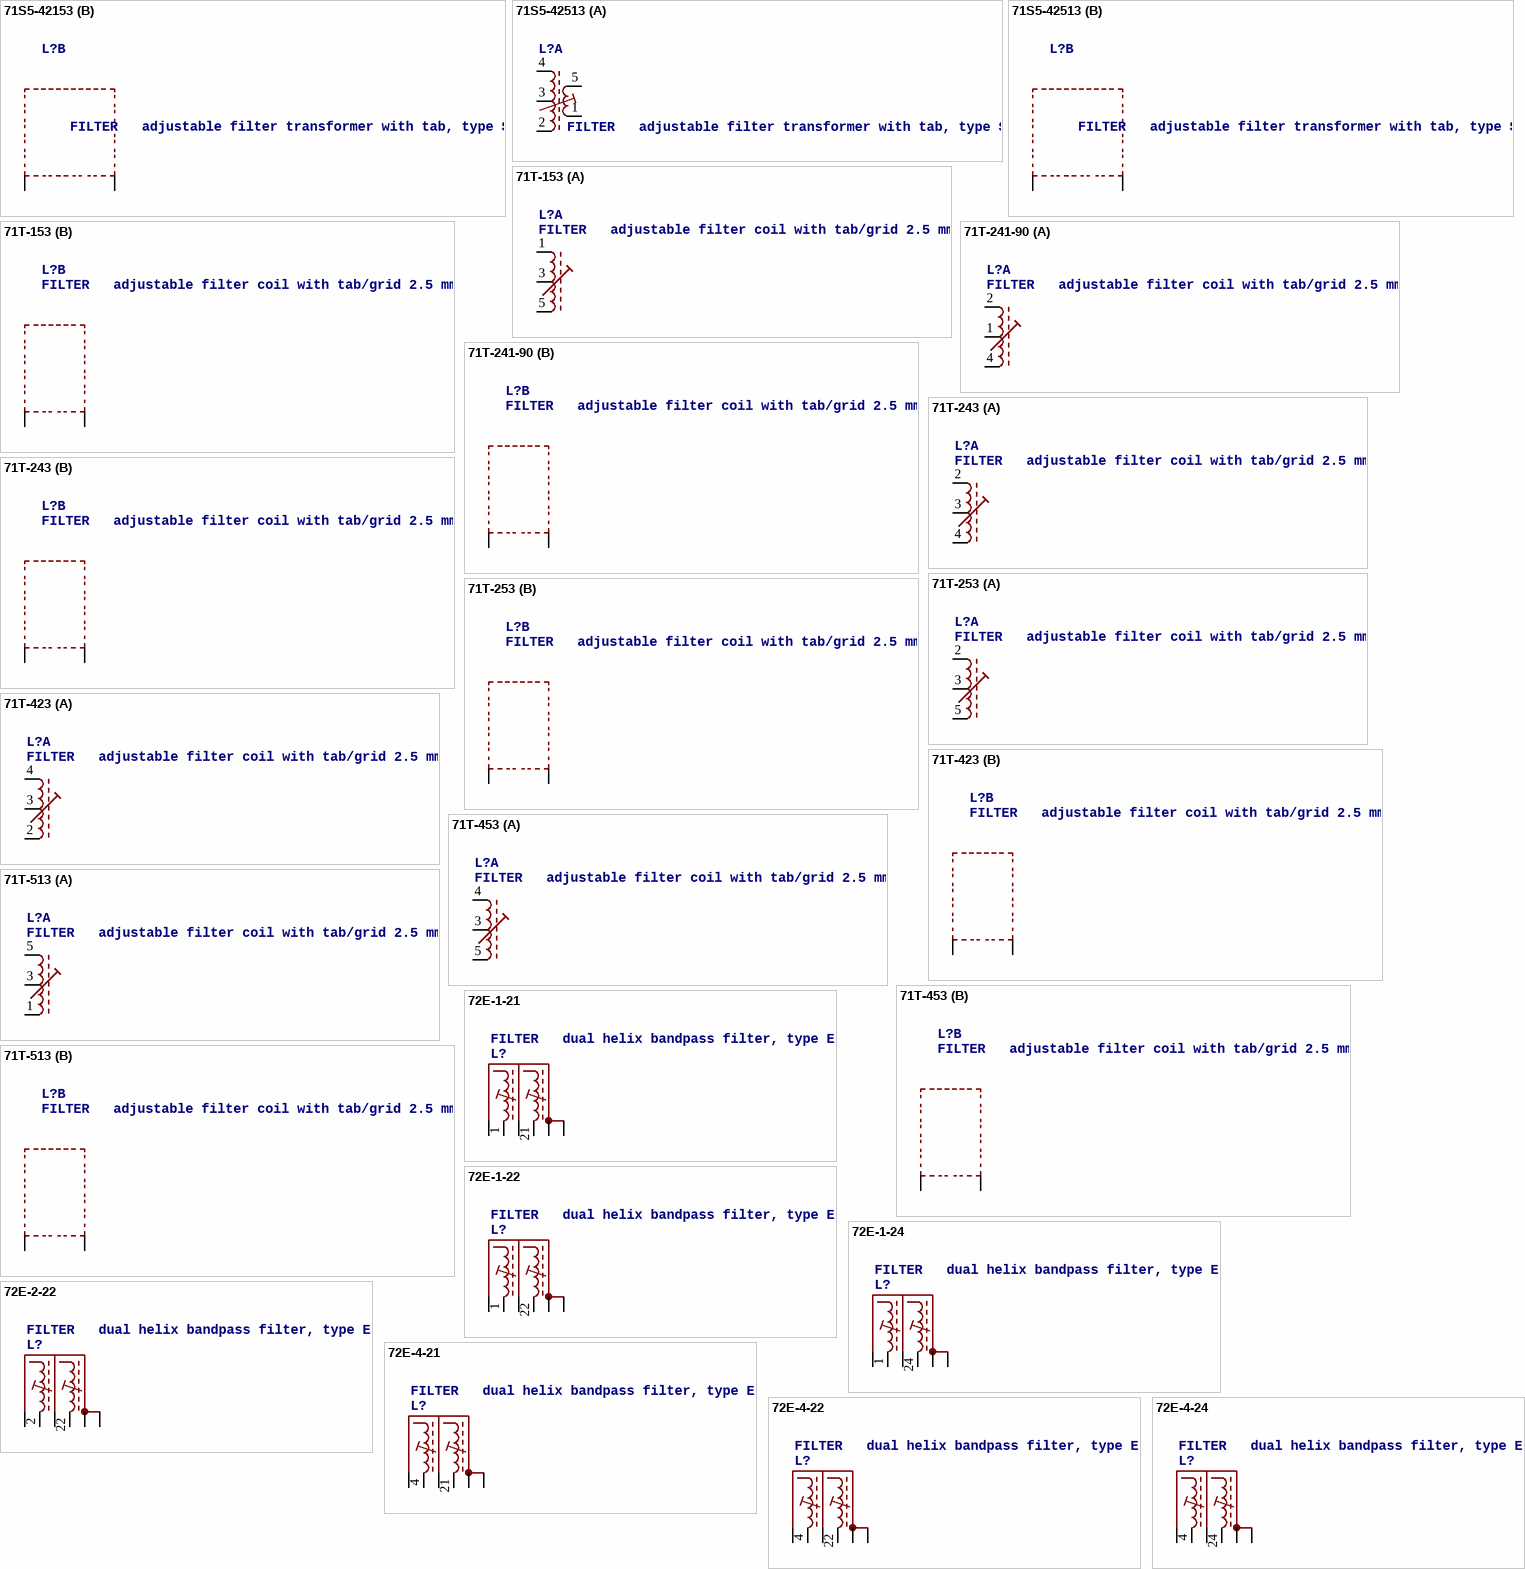
[diagram p8: symbols 71S5-42153 to 72E-4-24]

## 71S5-42153
designator L?, comment FILTER   adjustable filter transformer with tab, type S
OC_FARNELL: unknown; OC_NEWARK: unknown
footprint 71S
part A pins: 1 A2, 2 E1, 3 Z, 4 A1, 5 E2
part B pins: S1, S2

## 71S5-42513
designator L?, comment FILTER   adjustable filter transformer with tab, type S
OC_FARNELL: unknown; OC_NEWARK: unknown
footprint 71S
part A pins: 1 E2, 2 E1, 3 Z, 4 A1, 5 A2
part B pins: S1, S2

## 71T-153
designator L?, comment FILTER   adjustable filter coil with tab/grid 2.5 mm
OC_FARNELL: unknown; OC_NEWARK: unknown
footprint 71-5
part A pins: 1 A, 3 Z, 5 E
part B pins: S1, S2

## 71T-241-90
designator L?, comment FILTER   adjustable filter coil with tab/grid 2.5 mm
OC_FARNELL: unknown; OC_NEWARK: unknown
footprint 71-5/90
part A pins: 1 Z, 2 A, 4 E
part B pins: S1, S2

## 71T-243
designator L?, comment FILTER   adjustable filter coil with tab/grid 2.5 mm
OC_FARNELL: unknown; OC_NEWARK: unknown
footprint 71-5
part A pins: 2 A, 3 Z, 4 E
part B pins: S1, S2

## 71T-253
designator L?, comment FILTER   adjustable filter coil with tab/grid 2.5 mm
OC_FARNELL: unknown; OC_NEWARK: unknown
footprint 71-5
part A pins: 2 A, 3 Z, 5 E
part B pins: S1, S2

## 71T-423
designator L?, comment FILTER   adjustable filter coil with tab/grid 2.5 mm
OC_FARNELL: unknown; OC_NEWARK: unknown
footprint 71-5
part A pins: 2 E, 3 Z, 4 A
part B pins: S1, S2

## 71T-453
designator L?, comment FILTER   adjustable filter coil with tab/grid 2.5 mm
OC_FARNELL: unknown; OC_NEWARK: unknown
footprint 71-5
part A pins: 3 Z, 4 A, 5 E
part B pins: S1, S2

## 71T-513
designator L?, comment FILTER   adjustable filter coil with tab/grid 2.5 mm
OC_FARNELL: unknown; OC_NEWARK: unknown
footprint 71-5
part A pins: 1 E, 3 Z, 5 A
part B pins: S1, S2

## 72E-1-21
designator L?, comment FILTER   dual helix bandpass filter, type E
OC_FARNELL: unknown; OC_NEWARK: unknown
footprint 71EX2
pins: 1 IN, 21 OUT, S1, S2, S3, S4

## 72E-1-22
designator L?, comment FILTER   dual helix bandpass filter, type E
OC_FARNELL: unknown; OC_NEWARK: unknown
footprint 71EX2
pins: 1 IN, 22 OUT, S1, S2, S3, S4

## 72E-1-24
designator L?, comment FILTER   dual helix bandpass filter, type E
OC_FARNELL: unknown; OC_NEWARK: unknown
footprint 71EX2
pins: 1 IN, 24 OUT, S1, S2, S3, S4

## 72E-2-22
designator L?, comment FILTER   dual helix bandpass filter, type E
OC_FARNELL: unknown; OC_NEWARK: unknown
footprint 71EX2
pins: 2 IN, 22 OUT, S1, S2, S3, S4

## 72E-4-21
designator L?, comment FILTER   dual helix bandpass filter, type E
OC_FARNELL: unknown; OC_NEWARK: unknown
footprint 71EX2
pins: 4 IN, 21 OUT, S1, S2, S3, S4

## 72E-4-22
designator L?, comment FILTER   dual helix bandpass filter, type E
OC_FARNELL: unknown; OC_NEWARK: unknown
footprint 71EX2
pins: 4 IN, 22 OUT, S1, S2, S3, S4

## 72E-4-24
designator L?, comment FILTER   dual helix bandpass filter, type E
OC_FARNELL: unknown; OC_NEWARK: unknown
footprint 71EX2
pins: 4 IN, 24 OUT, S1, S2, S3, S4

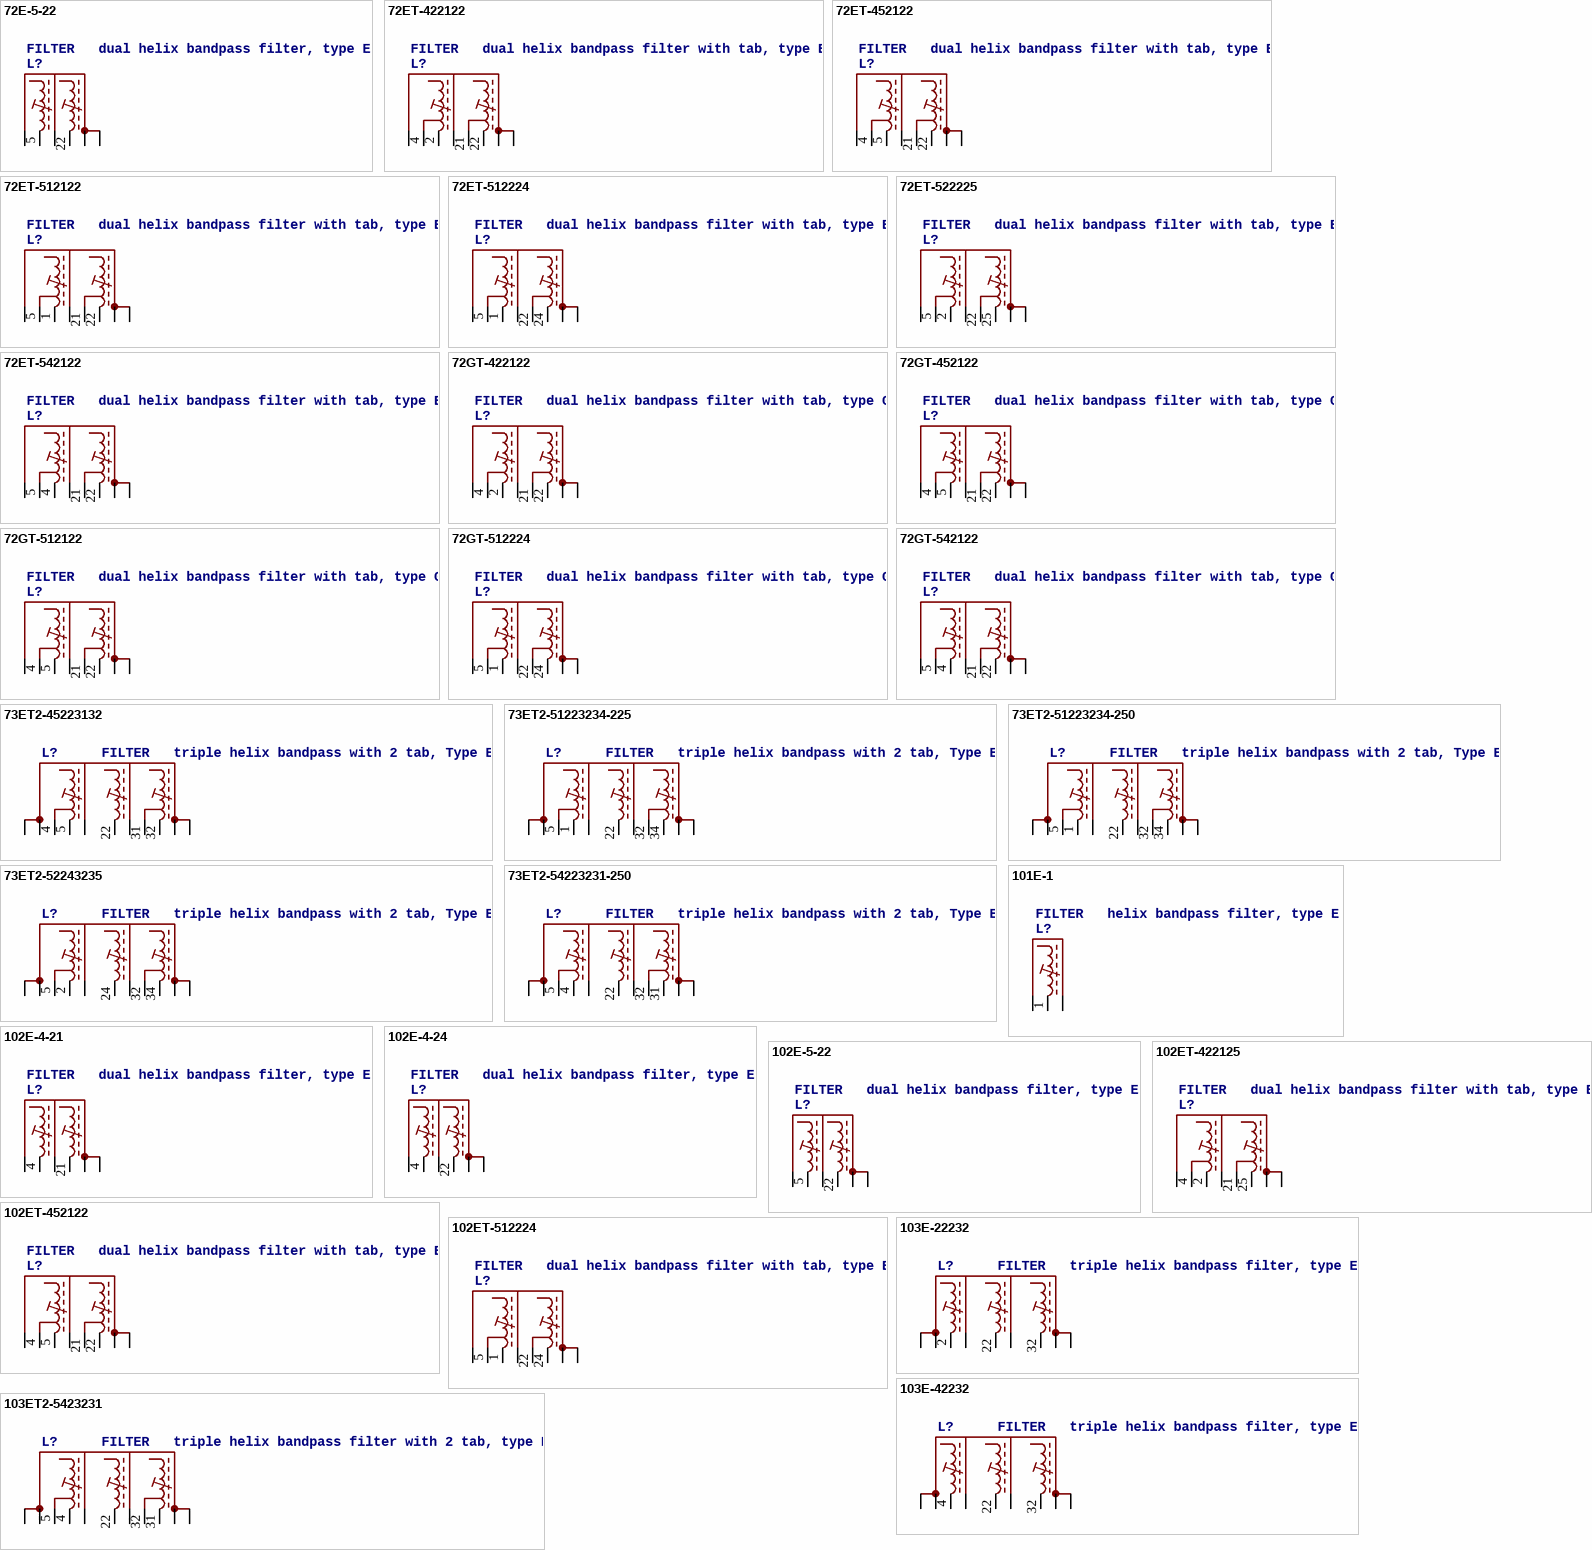
[diagram p9: symbols 72E-5-22 to 103ET2-5423231]

## 72E-5-22
designator L?, comment FILTER   dual helix bandpass filter, type E
OC_FARNELL: unknown; OC_NEWARK: unknown
footprint 71EX2
pins: 5 IN, 22 OUT, S1, S2, S3, S4

## 72ET-422122
designator L?, comment FILTER   dual helix bandpass filter with tab, type E
OC_FARNELL: unknown; OC_NEWARK: unknown
footprint 71EX2
pins: 2 GND1, 4 IN, 21 OUT, 22 GND2, S1, S2, S3, S4

## 72ET-452122
designator L?, comment FILTER   dual helix bandpass filter with tab, type E
OC_FARNELL: unknown; OC_NEWARK: unknown
footprint 71EX2
pins: 4 IN, 5 GND1, 21 OUT, 22 GND2, S1, S2, S3, S4

## 72ET-512122
designator L?, comment FILTER   dual helix bandpass filter with tab, type E
OC_FARNELL: unknown; OC_NEWARK: unknown
footprint 71EX2
pins: 1 GND1, 5 IN, 21 OUT, 22 GND2, S1, S2, S3, S4

## 72ET-512224
designator L?, comment FILTER   dual helix bandpass filter with tab, type E
OC_FARNELL: unknown; OC_NEWARK: unknown
footprint 71EX2
pins: 1 GND1, 5 IN, 22 OUT, 24 GND2, S1, S2, S3, S4

## 72ET-522225
designator L?, comment FILTER   dual helix bandpass filter with tab, type E
OC_FARNELL: unknown; OC_NEWARK: unknown
footprint 71EX2
pins: 2 GND1, 5 IN, 22 OUT, 25 GND2, S1, S2, S3, S4

## 72ET-542122
designator L?, comment FILTER   dual helix bandpass filter with tab, type E
OC_FARNELL: unknown; OC_NEWARK: unknown
footprint 71EX2
pins: 4 GND1, 5 IN, 21 OUT, 22 GND2, S1, S2, S3, S4

## 72GT-422122
designator L?, comment FILTER   dual helix bandpass filter with tab, type G
OC_FARNELL: unknown; OC_NEWARK: unknown
footprint 71GX2
pins: 2 GND1, 4 IN, 21 OUT, 22 GND2, S1, S2, S3, S4

## 72GT-452122
designator L?, comment FILTER   dual helix bandpass filter with tab, type G
OC_FARNELL: unknown; OC_NEWARK: unknown
footprint 71GX2
pins: 4 IN, 5 GND1, 21 OUT, 22 GND2, S1, S2, S3, S4

## 72GT-512122
designator L?, comment FILTER   dual helix bandpass filter with tab, type G
OC_FARNELL: unknown; OC_NEWARK: unknown
footprint 71GX2
pins: 4 IN, 5 GND1, 21 OUT, 22 GND2, S1, S2, S3, S4

## 72GT-512224
designator L?, comment FILTER   dual helix bandpass filter with tab, type G
OC_FARNELL: unknown; OC_NEWARK: unknown
footprint 71GX2
pins: 1 GND1, 5 IN, 22 OUT, 24 GND2, S1, S2, S3, S4

## 72GT-542122
designator L?, comment FILTER   dual helix bandpass filter with tab, type G
OC_FARNELL: unknown; OC_NEWARK: unknown
footprint 71GX2
pins: 4 GND1, 5 IN, 21 OUT, 22 GND2, S1, S2, S3, S4

## 73ET2-45223132
designator L?, comment FILTER   triple helix bandpass with 2 tab, Type E
OC_FARNELL: unknown; OC_NEWARK: unknown
footprint 71EX3RM225
pins: 4 IN, 5 GND1, 22 GND2, 31 OUT1, 32 GND3, S1, S2, S3, S4, S5, S6

## 73ET2-51223234-225
designator L?, comment FILTER   triple helix bandpass with 2 tab, Type E
OC_FARNELL: unknown; OC_NEWARK: unknown
footprint 71EX3RM225
pins: 1 GND1, 5 IN, 22 GND2, 32 OUT1, 34 GND3, S1, S2, S3, S4, S5, S6

## 73ET2-51223234-250
designator L?, comment FILTER   triple helix bandpass with 2 tab, Type E
OC_FARNELL: unknown; OC_NEWARK: unknown
footprint 71EX3
pins: 1 GND1, 5 IN, 22 GND2, 32 OUT1, 34 GND3, S1, S2, S3, S4, S5, S6

## 73ET2-52243235
designator L?, comment FILTER   triple helix bandpass with 2 tab, Type E
OC_FARNELL: unknown; OC_NEWARK: unknown
footprint 71EX3
pins: 2 GND1, 5 IN, 24 GND2, 32 OUT1, 34 GND3, S1, S2, S3, S4, S5, S6

## 73ET2-54223231-250
designator L?, comment FILTER   triple helix bandpass with 2 tab, Type E
OC_FARNELL: unknown; OC_NEWARK: unknown
footprint 71EX3
pins: 4 GND1, 5 IN, 22 GND2, 31 GND3, 32 OUT1, S1, S2, S3, S4, S5, S6

## 101E-1
designator L?, comment FILTER   helix bandpass filter, type E
OC_FARNELL: unknown; OC_NEWARK: unknown
footprint H101E
pins: 1 IO, S1, S2

## 102E-4-21
designator L?, comment FILTER   dual helix bandpass filter, type E
OC_FARNELL: unknown; OC_NEWARK: unknown
footprint H102E
pins: 4 IN, 21 OUT, S1, S2, S3, S4

## 102E-4-24
designator L?, comment FILTER   dual helix bandpass filter, type E
OC_FARNELL: unknown; OC_NEWARK: unknown
footprint H102E
pins: 4 IN, 22 OUT, S1, S2, S3, S4

## 102E-5-22
designator L?, comment FILTER   dual helix bandpass filter, type E
OC_FARNELL: unknown; OC_NEWARK: unknown
footprint H102E
pins: 5 IN, 22 OUT, S1, S2, S3, S4

## 102ET-422125
designator L?, comment FILTER   dual helix bandpass filter with tab, type E
OC_FARNELL: unknown; OC_NEWARK: unknown
footprint H102E
pins: 2 GND1, 4 IN, 21 OUT, 25 GND2, S1, S2, S3, S4

## 102ET-452122
designator L?, comment FILTER   dual helix bandpass filter with tab, type E
OC_FARNELL: unknown; OC_NEWARK: unknown
footprint H102E
pins: 4 IN, 5 GND1, 21 OUT, 22 GND2, S1, S2, S3, S4

## 102ET-512224
designator L?, comment FILTER   dual helix bandpass filter with tab, type E
OC_FARNELL: unknown; OC_NEWARK: unknown
footprint H102E
pins: 1 GND1, 5 IN, 22 OUT, 24 GND2, S1, S2, S3, S4

## 103E-22232
designator L?, comment FILTER   triple helix bandpass filter, type E
OC_FARNELL: unknown; OC_NEWARK: unknown
footprint H103E
pins: 2 IN, 22 GND2, 32 OUT1, S1, S2, S3, S4, S5, S6

## 103E-42232
designator L?, comment FILTER   triple helix bandpass filter, type E
OC_FARNELL: unknown; OC_NEWARK: unknown
footprint H103E
pins: 4 IN, 22 GND2, 32 OUT1, S1, S2, S3, S4, S5, S6

## 103ET2-5423231
designator L?, comment FILTER   triple helix bandpass filter with 2 tab, type E
OC_FARNELL: unknown; OC_NEWARK: unknown
footprint H103E
pins: 4 GND1, 5 IN, 22 GND2, 31 GND3, 32 OUT1, S1, S2, S3, S4, S5, S6

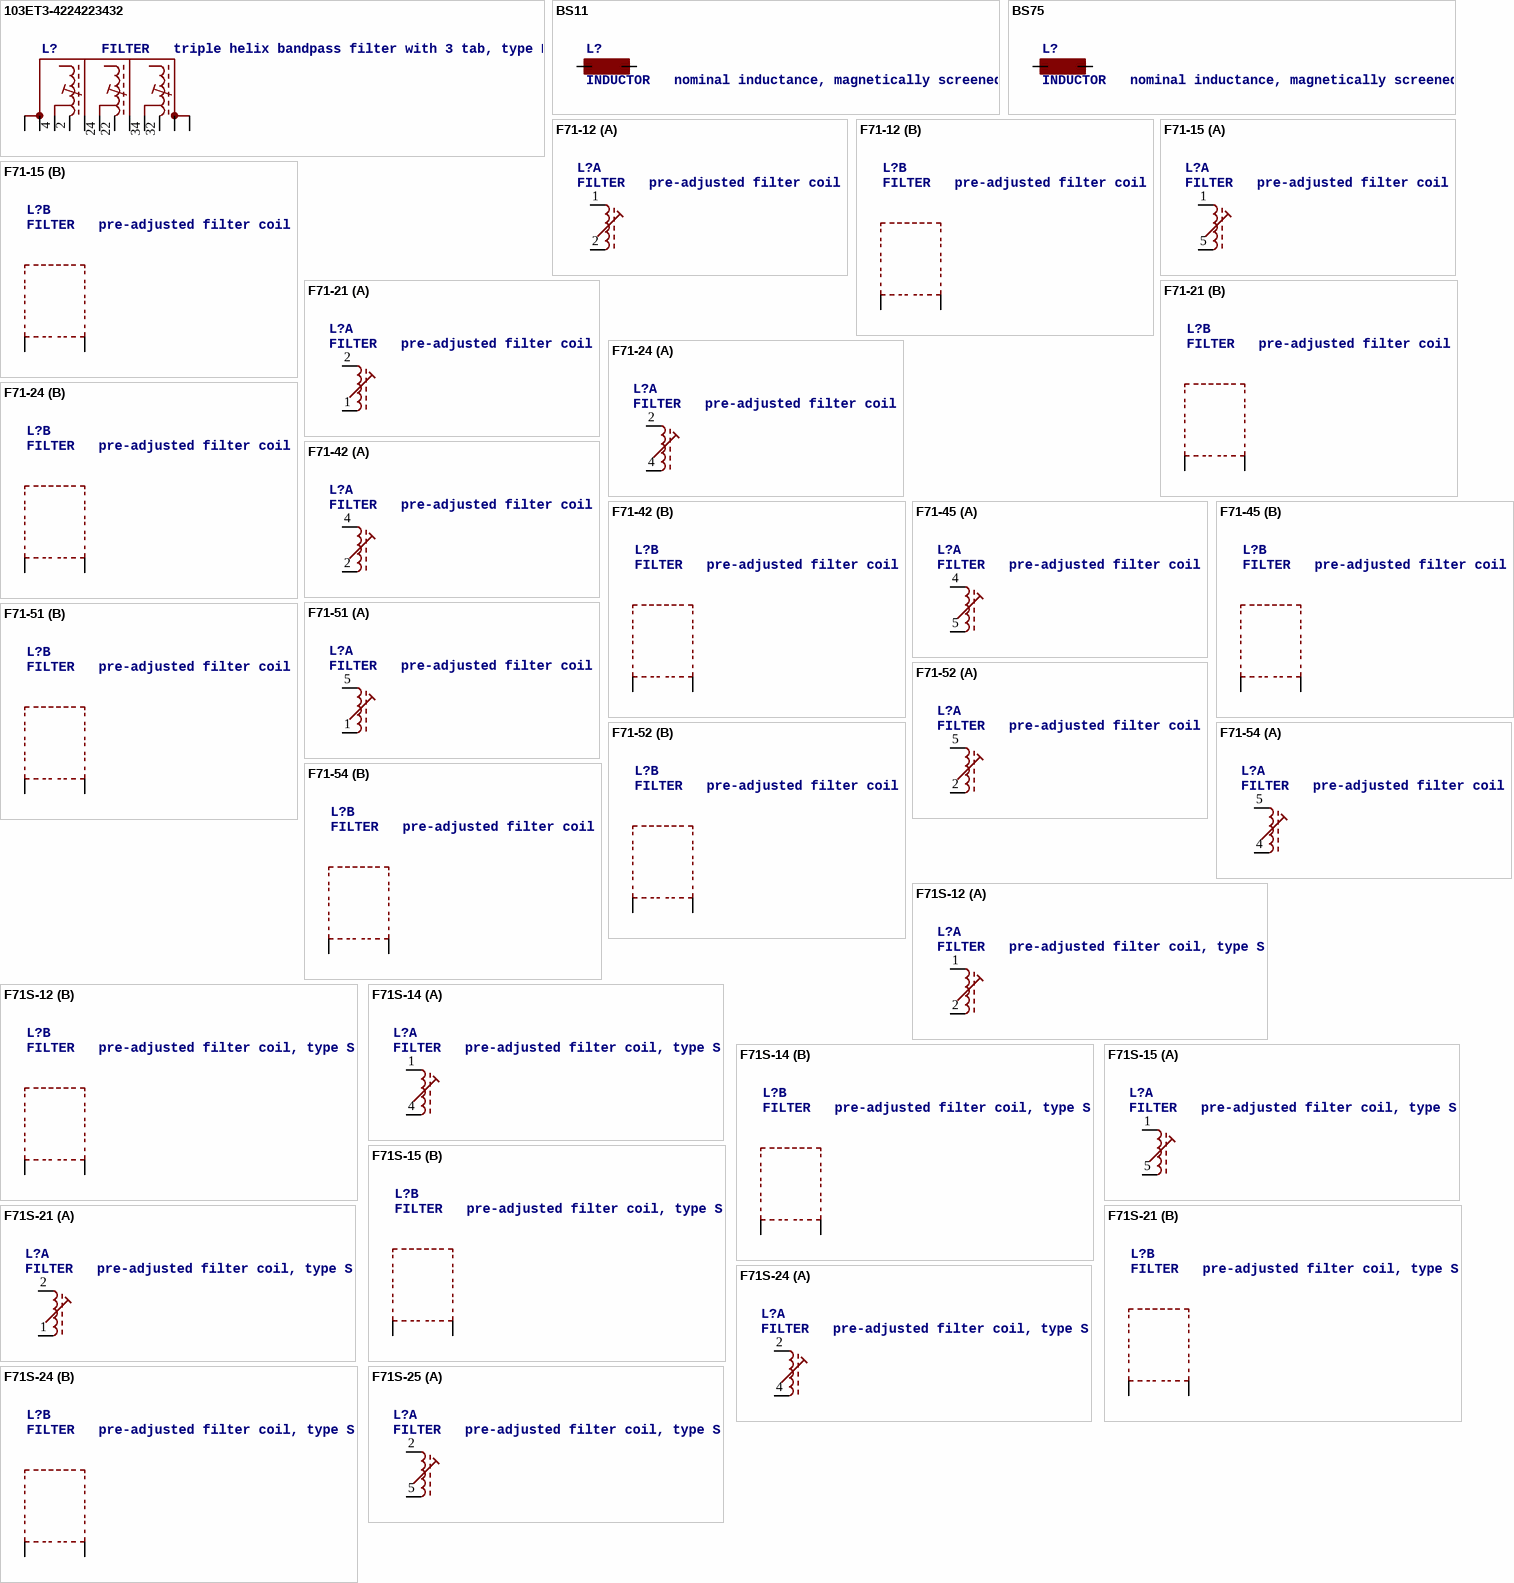
[diagram p10: symbols 103ET3-4224223432 to F71S-25]

## 103ET3-4224223432
designator L?, comment FILTER   triple helix bandpass filter with 3 tab, type E
OC_FARNELL: unknown; OC_NEWARK: unknown
footprint H103E
pins: 2 GND1, 4 IN, 22 GND2, 24 Z, 32 GND3, 34 OUT1, S1, S2, S3, S4, S5, S6

## BS11
designator L?, comment INDUCTOR   nominal inductance, magnetically screened
OC_FARNELL: unknown; OC_NEWARK: unknown
footprint BS11
pins: 1, 2

## BS75
designator L?, comment INDUCTOR   nominal inductance, magnetically screened
OC_FARNELL: unknown; OC_NEWARK: unknown
footprint BS75
pins: 1, 2

## F71-12
designator L?, comment FILTER   pre-adjusted filter coil
OC_FARNELL: unknown; OC_NEWARK: unknown
footprint 71-5
part A pins: 1 A, 2 E
part B pins: S1, S2

## F71-15
designator L?, comment FILTER   pre-adjusted filter coil
OC_FARNELL: unknown; OC_NEWARK: unknown
footprint 71-5
part A pins: 1 A, 5 E
part B pins: S1, S2

## F71-21
designator L?, comment FILTER   pre-adjusted filter coil
OC_FARNELL: unknown; OC_NEWARK: unknown
footprint 71-5
part A pins: 1 E, 2 A
part B pins: S1, S2

## F71-24
designator L?, comment FILTER   pre-adjusted filter coil
OC_FARNELL: unknown; OC_NEWARK: unknown
footprint 71-5
part A pins: 2 A, 4 E
part B pins: S1, S2

## F71-42
designator L?, comment FILTER   pre-adjusted filter coil
OC_FARNELL: unknown; OC_NEWARK: unknown
footprint 71-5
part A pins: 2 E, 4 A
part B pins: S1, S2

## F71-45
designator L?, comment FILTER   pre-adjusted filter coil
OC_FARNELL: unknown; OC_NEWARK: unknown
footprint 71-5
part A pins: 4 A, 5 E
part B pins: S1, S2

## F71-51
designator L?, comment FILTER   pre-adjusted filter coil
OC_FARNELL: unknown; OC_NEWARK: unknown
footprint 71-5
part A pins: 1 E, 5 A
part B pins: S1, S2

## F71-52
designator L?, comment FILTER   pre-adjusted filter coil
OC_FARNELL: unknown; OC_NEWARK: unknown
footprint 71-5
part A pins: 2 E, 5 A
part B pins: S1, S2

## F71-54
designator L?, comment FILTER   pre-adjusted filter coil
OC_FARNELL: unknown; OC_NEWARK: unknown
footprint 71-5
part A pins: 4 E, 5 A
part B pins: S1, S2

## F71S-12
designator L?, comment FILTER   pre-adjusted filter coil, type S
OC_FARNELL: unknown; OC_NEWARK: unknown
footprint 71S
part A pins: 1 A, 2 E
part B pins: S1, S2

## F71S-14
designator L?, comment FILTER   pre-adjusted filter coil, type S
OC_FARNELL: unknown; OC_NEWARK: unknown
footprint 71S
part A pins: 1 A, 4 E
part B pins: S1, S2

## F71S-15
designator L?, comment FILTER   pre-adjusted filter coil, type S
OC_FARNELL: unknown; OC_NEWARK: unknown
footprint 71S
part A pins: 1 A, 5 E
part B pins: S1, S2

## F71S-21
designator L?, comment FILTER   pre-adjusted filter coil, type S
OC_FARNELL: unknown; OC_NEWARK: unknown
footprint 71S
part A pins: 1 E, 2 A
part B pins: S1, S2

## F71S-24
designator L?, comment FILTER   pre-adjusted filter coil, type S
OC_FARNELL: unknown; OC_NEWARK: unknown
footprint 71S
part A pins: 2 A, 4 E
part B pins: S1, S2

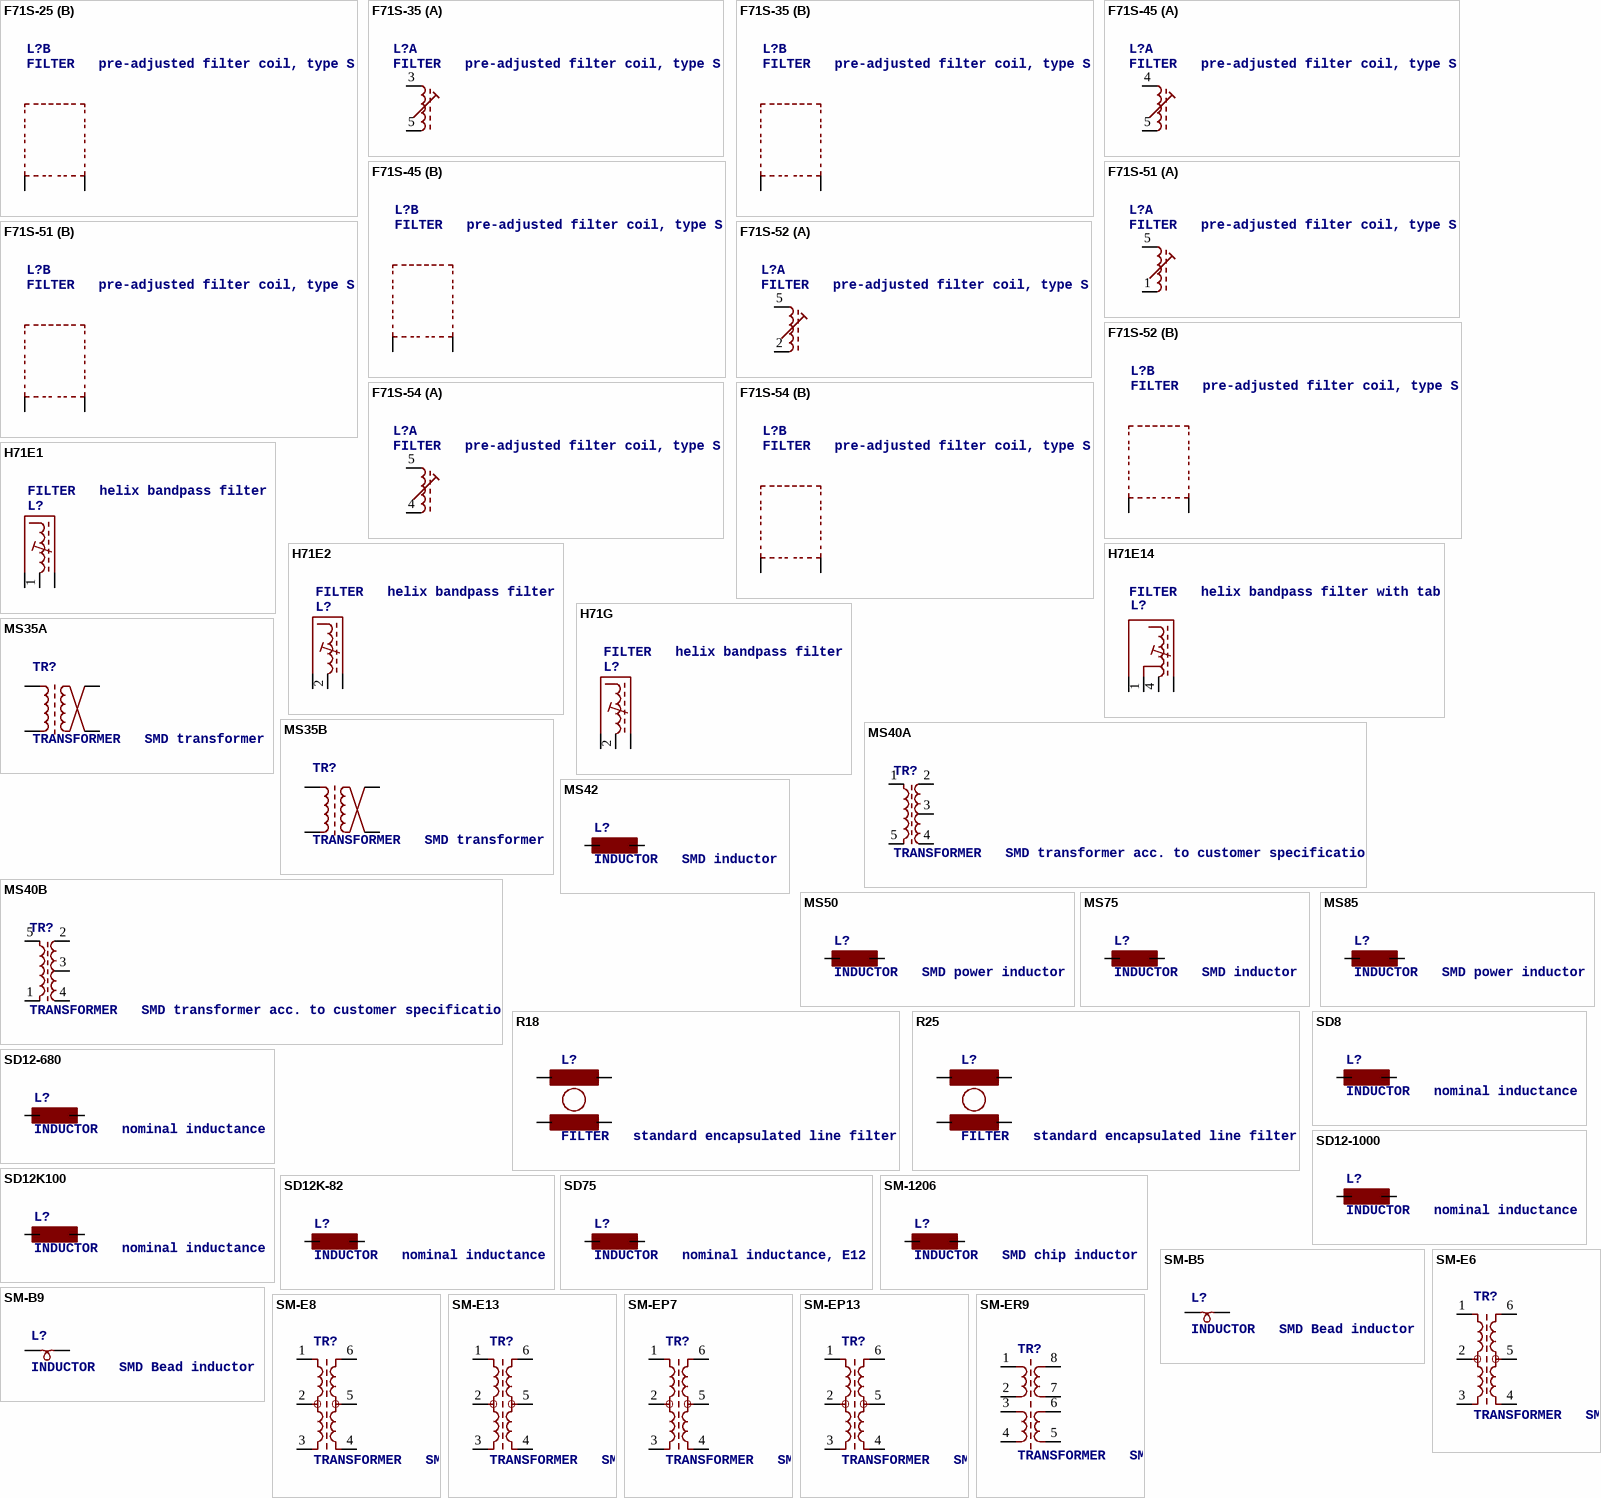
[diagram p11: symbols F71S-25 to SM-ER9]

## F71S-25
designator L?, comment FILTER   pre-adjusted filter coil, type S
OC_FARNELL: unknown; OC_NEWARK: unknown
footprint 71S
part A pins: 2 A, 5 E
part B pins: S1, S2

## F71S-35
designator L?, comment FILTER   pre-adjusted filter coil, type S
OC_FARNELL: unknown; OC_NEWARK: unknown
footprint 71S
part A pins: 3 A, 5 E
part B pins: S1, S2

## F71S-45
designator L?, comment FILTER   pre-adjusted filter coil, type S
OC_FARNELL: unknown; OC_NEWARK: unknown
footprint 71S
part A pins: 4 A, 5 E
part B pins: S1, S2

## F71S-51
designator L?, comment FILTER   pre-adjusted filter coil, type S
OC_FARNELL: unknown; OC_NEWARK: unknown
footprint 71S
part A pins: 1 E, 5 A
part B pins: S1, S2

## F71S-52
designator L?, comment FILTER   pre-adjusted filter coil, type S
OC_FARNELL: unknown; OC_NEWARK: unknown
footprint 71S
part A pins: 2 E, 5 A
part B pins: S1, S2

## F71S-54
designator L?, comment FILTER   pre-adjusted filter coil, type S
OC_FARNELL: unknown; OC_NEWARK: unknown
footprint 71S
part A pins: 4 E, 5 A
part B pins: S1, S2

## H71E1
designator L?, comment FILTER   helix bandpass filter
OC_FARNELL: unknown; OC_NEWARK: unknown
footprint 71EC
pins: 1 IO, S1, S2

## H71E2
designator L?, comment FILTER   helix bandpass filter
OC_FARNELL: unknown; OC_NEWARK: unknown
footprint 71EC
pins: 2 IO, S1, S2

## H71E14
designator L?, comment FILTER   helix bandpass filter with tab
OC_FARNELL: unknown; OC_NEWARK: unknown
footprint 71EC
pins: 1 IN, 4 GND, S1, S2

## H71G
designator L?, comment FILTER   helix bandpass filter
OC_FARNELL: unknown; OC_NEWARK: unknown
footprint 71G
pins: 2 IO, S1, S2

## MS35A
designator TR?, comment TRANSFORMER   SMD transformer
OC_FARNELL: unknown; OC_NEWARK: unknown
footprint MS35A
pins: A1, A2, E1, E2

## MS35B
designator TR?, comment TRANSFORMER   SMD transformer
OC_FARNELL: unknown; OC_NEWARK: unknown
footprint MS35B
pins: A1, A2, E1, E2

## MS40A
designator TR?, comment TRANSFORMER   SMD transformer acc. to customer specification
OC_FARNELL: unknown; OC_NEWARK: unknown
footprint MS40
pins: 1, 2, 3, 4, 5

## MS40B
designator TR?, comment TRANSFORMER   SMD transformer acc. to customer specification
OC_FARNELL: unknown; OC_NEWARK: unknown
footprint MS40
pins: 1 5, 2, 3, 4, 5 1

## MS42
designator L?, comment INDUCTOR   SMD inductor
OC_FARNELL: unknown; OC_NEWARK: unknown
footprint MS42
pins: 1, 2

## MS50
designator L?, comment INDUCTOR   SMD power inductor
OC_FARNELL: unknown; OC_NEWARK: unknown
footprint MS50
pins: 1, 2

## MS75
designator L?, comment INDUCTOR   SMD inductor
OC_FARNELL: unknown; OC_NEWARK: unknown
footprint MS75
pins: 1, 2

## MS85
designator L?, comment INDUCTOR   SMD power inductor
OC_FARNELL: unknown; OC_NEWARK: unknown
footprint MS85
pins: 1, 2

## R18
designator L?, comment FILTER   standard encapsulated line filter
OC_FARNELL: unknown; OC_NEWARK: unknown
footprint R18
pins: 1, 2, 3, 4

## R25
designator L?, comment FILTER   standard encapsulated line filter
OC_FARNELL: unknown; OC_NEWARK: unknown
footprint R25
pins: 1, 2, 3, 4

## SD8
designator L?, comment INDUCTOR   nominal inductance
OC_FARNELL: unknown; OC_NEWARK: unknown
footprint SD8
pins: 1, 2

## SD12-680
designator L?, comment INDUCTOR   nominal inductance
MPN: SD12-680; MF: BUSSMANN; OC_FARNELL: unknown; OC_NEWARK: 19K7201
footprint SD12-680
pins: 1, 2

## SD12-1000
designator L?, comment INDUCTOR   nominal inductance
OC_FARNELL: unknown; OC_NEWARK: unknown
footprint SD12_1000
pins: 1, 2

## SD12K100
designator L?, comment INDUCTOR   nominal inductance
OC_FARNELL: unknown; OC_NEWARK: unknown
footprint SD12K100
pins: 1, 2

## SD12K-82
designator L?, comment INDUCTOR   nominal inductance
OC_FARNELL: unknown; OC_NEWARK: unknown
footprint SD12K-82
pins: 1, 2

## SD75
designator L?, comment INDUCTOR   nominal inductance, E12
OC_FARNELL: unknown; OC_NEWARK: unknown
footprint SD75
pins: 1, 2

## SM-1206
designator L?, comment INDUCTOR   SMD chip inductor
OC_FARNELL: unknown; OC_NEWARK: unknown
footprint SM-1206
pins: 1, 2

## SM-B5
designator L?, comment INDUCTOR   SMD Bead inductor
OC_FARNELL: unknown; OC_NEWARK: unknown
footprint SM-B5
pins: 1, 2

## SM-B9
designator L?, comment INDUCTOR   SMD Bead inductor
OC_FARNELL: unknown; OC_NEWARK: unknown
footprint SM-B9
pins: 1, 2

## SM-E6
designator TR?, comment TRANSFORMER   SMD converter and transformer acc. to customer specification
OC_FARNELL: unknown; OC_NEWARK: unknown
footprint SM-E6
pins: 1, 2, 3, 4, 5, 6

## SM-E8
designator TR?, comment TRANSFORMER   SMD converter and transformer acc. to customer specification
OC_FARNELL: unknown; OC_NEWARK: unknown
footprint SM-E8
pins: 1, 2, 3, 4, 5, 6

## SM-E13
designator TR?, comment TRANSFORMER   SMD converter and transformer acc. to customer specification
OC_FARNELL: unknown; OC_NEWARK: unknown
footprint SM-E13
pins: 1, 2, 3, 4, 5, 6

## SM-EP7
designator TR?, comment TRANSFORMER   SMD converter and transformer acc. to customer specification
OC_FARNELL: unknown; OC_NEWARK: unknown
footprint SM-EP7
pins: 1, 2, 3, 4, 5, 6

## SM-EP13
designator TR?, comment TRANSFORMER   SMD converter and transformer acc. to customer specification
OC_FARNELL: unknown; OC_NEWARK: unknown
footprint SM-EP13
pins: 1, 2, 3, 4, 5, 6

## SM-ER9
designator TR?, comment TRANSFORMER   SMD converter and transformer acc. to customer specification
OC_FARNELL: unknown; OC_NEWARK: unknown
footprint SM-ER9
pins: 1, 2, 3, 4, 5, 6, 7, 8

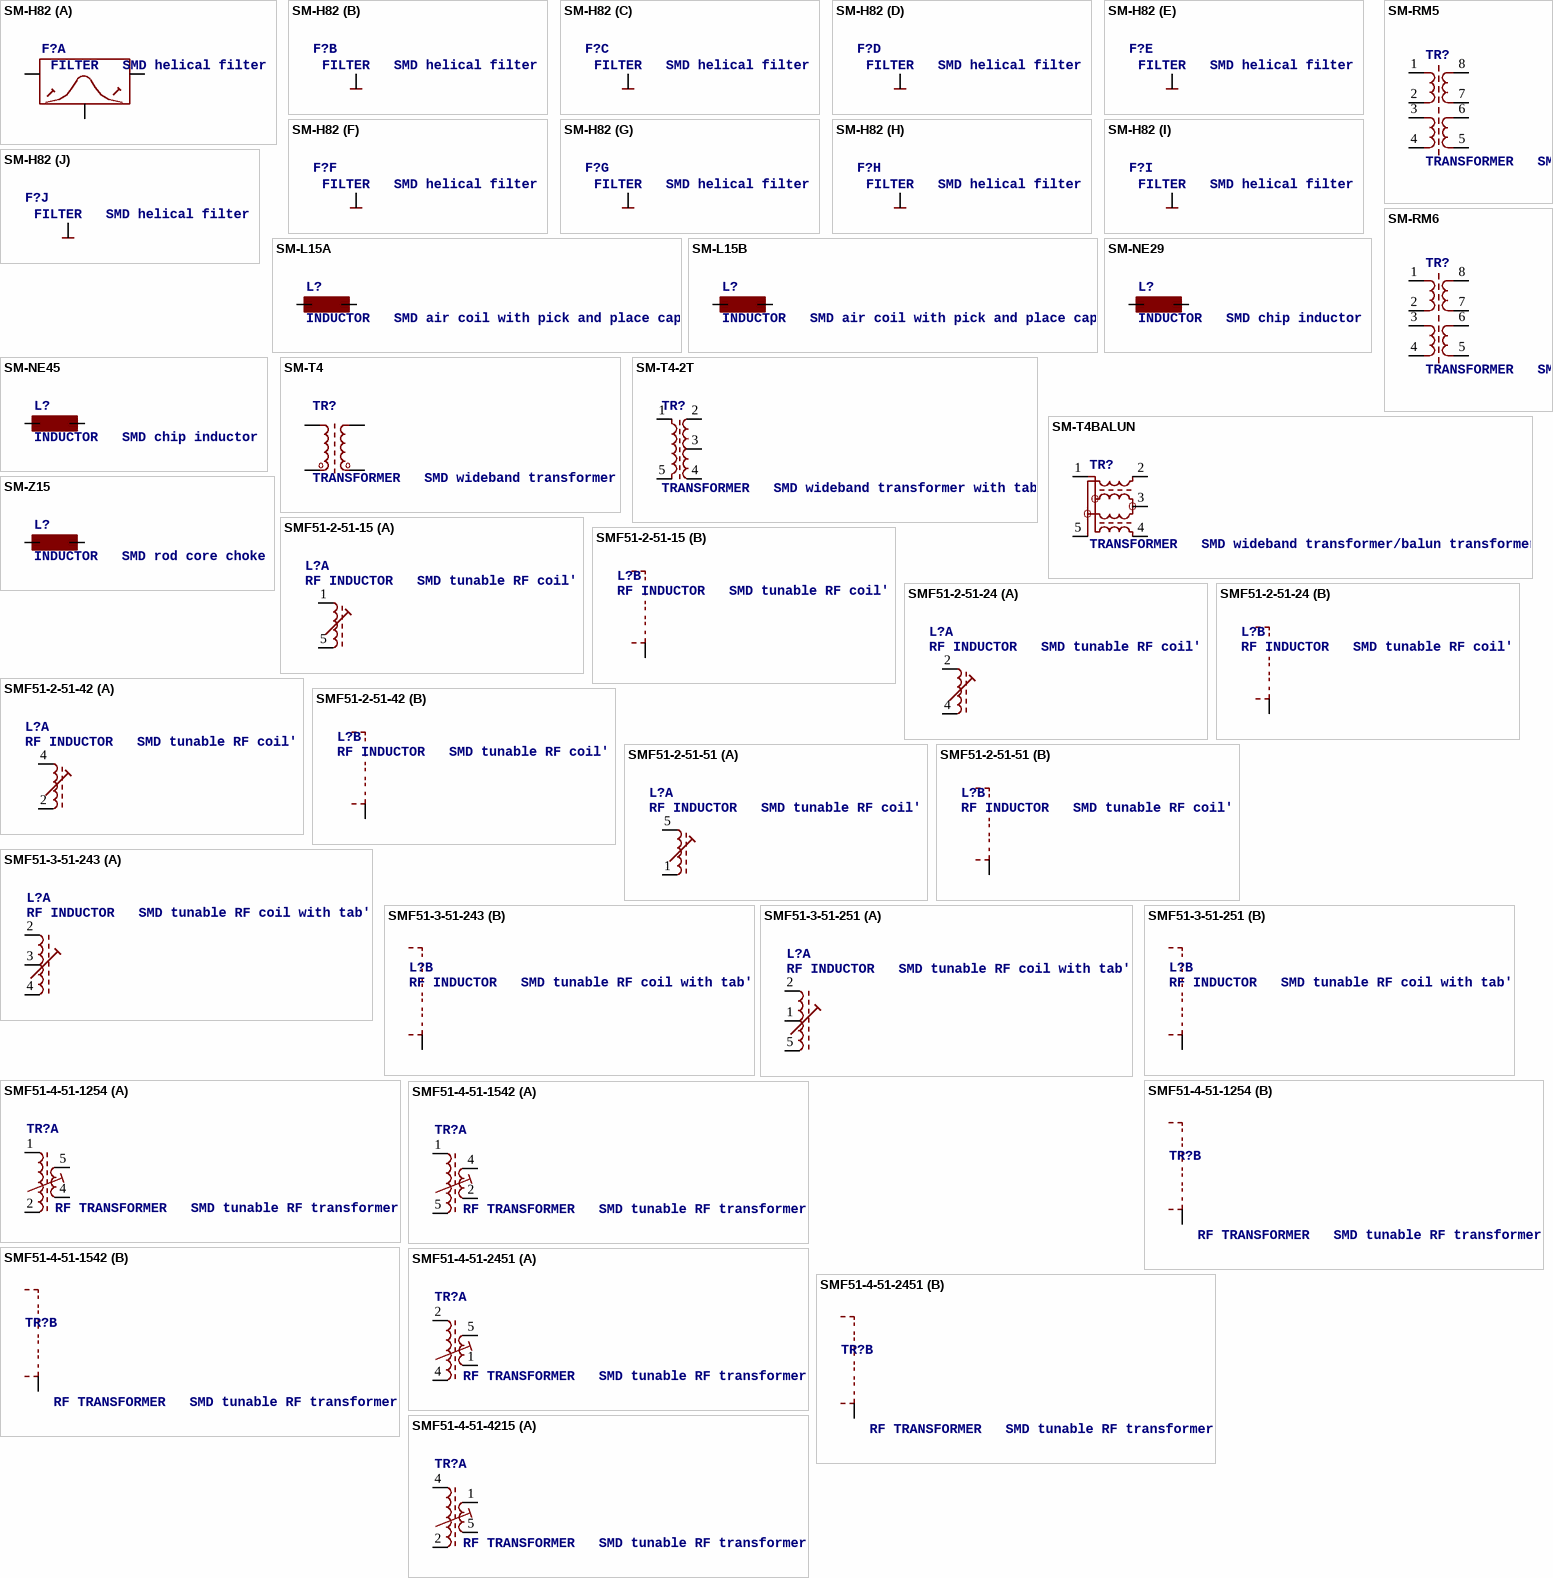
[diagram p12: symbols SM-H82 to SMF51-4-51-4215]

## SM-H82
designator F?, comment FILTER   SMD helical filter
OC_FARNELL: unknown; OC_NEWARK: unknown
footprint SM-H82
part A pins: 1 IN, 2 GND (power), 7 OUT
part B pins: 3 GND (power)
part C pins: 4 GND (power)
part D pins: 5 GND (power)
part E pins: 6 GND (power)
part F pins: 8 GND (power)
part G pins: 9 GND (power)
part H pins: 10 GND (power)
part I pins: 11 GND (power)
part J pins: 12 GND (power)

## SM-L15A
designator L?, comment INDUCTOR   SMD air coil with pick and place cap
OC_FARNELL: unknown; OC_NEWARK: unknown
footprint SM-L15A
pins: 1, 2

## SM-L15B
designator L?, comment INDUCTOR   SMD air coil with pick and place cap
OC_FARNELL: unknown; OC_NEWARK: unknown
footprint SM-L15B
pins: 1, 2

## SM-NE29
designator L?, comment INDUCTOR   SMD chip inductor
OC_FARNELL: unknown; OC_NEWARK: unknown
footprint SM-NE29
pins: 1, 2

## SM-NE45
designator L?, comment INDUCTOR   SMD chip inductor
OC_FARNELL: unknown; OC_NEWARK: unknown
footprint SM-NE45
pins: 1, 2

## SM-RM5
designator TR?, comment TRANSFORMER   SMD converter and transformer acc. to customer specification
OC_FARNELL: unknown; OC_NEWARK: unknown
footprint SM-RM5
pins: 1, 2, 3, 4, 5, 6, 7, 8

## SM-RM6
designator TR?, comment TRANSFORMER   SMD converter and transformer acc. to customer specification
OC_FARNELL: unknown; OC_NEWARK: unknown
footprint SM-RM6
pins: 1, 2, 3, 4, 5, 6, 7, 8

## SM-T4
designator TR?, comment TRANSFORMER   SMD wideband transformer
OC_FARNELL: unknown; OC_NEWARK: unknown
footprint SM-T4
pins: 1 A1, 2 E1, 4 E2, 5 A2

## SM-T4-2T
designator TR?, comment TRANSFORMER   SMD wideband transformer with tab
OC_FARNELL: unknown; OC_NEWARK: unknown
footprint SM-T4
pins: 1, 2, 3, 4, 5

## SM-T4BALUN
designator TR?, comment TRANSFORMER   SMD wideband transformer/balun transformer
OC_FARNELL: unknown; OC_NEWARK: unknown
footprint SM-T4
pins: 1, 2, 3, 4, 5

## SM-Z15
designator L?, comment INDUCTOR   SMD rod core choke
OC_FARNELL: unknown; OC_NEWARK: unknown
footprint SM-Z15
pins: 1, 2

## SMF51-2-51-15
designator L?, comment RF INDUCTOR   SMD tunable RF coil'
OC_FARNELL: unknown; OC_NEWARK: unknown
footprint SMF5_1
part A pins: 1 A, 5 E
part B pins: S

## SMF51-2-51-24
designator L?, comment RF INDUCTOR   SMD tunable RF coil'
OC_FARNELL: unknown; OC_NEWARK: unknown
footprint SMF5_1
part A pins: 2 A, 4 E
part B pins: S

## SMF51-2-51-42
designator L?, comment RF INDUCTOR   SMD tunable RF coil'
OC_FARNELL: unknown; OC_NEWARK: unknown
footprint SMF5_1
part A pins: 2 E, 4 A
part B pins: S

## SMF51-2-51-51
designator L?, comment RF INDUCTOR   SMD tunable RF coil'
OC_FARNELL: unknown; OC_NEWARK: unknown
footprint SMF5_1
part A pins: 1 E, 5 A
part B pins: S

## SMF51-3-51-243
designator L?, comment RF INDUCTOR   SMD tunable RF coil with tab'
OC_FARNELL: unknown; OC_NEWARK: unknown
footprint SMF5_1
part A pins: 2 A, 3 Z, 4 E
part B pins: S

## SMF51-3-51-251
designator L?, comment RF INDUCTOR   SMD tunable RF coil with tab'
OC_FARNELL: unknown; OC_NEWARK: unknown
footprint SMF5_1
part A pins: 1 Z, 2 A, 5 E
part B pins: S

## SMF51-4-51-1254
designator TR?, comment RF TRANSFORMER   SMD tunable RF transformer
OC_FARNELL: unknown; OC_NEWARK: unknown
footprint SMF5_1
part A pins: 1 A1, 2 E1, 4 E2, 5 A2
part B pins: S

## SMF51-4-51-1542
designator TR?, comment RF TRANSFORMER   SMD tunable RF transformer
OC_FARNELL: unknown; OC_NEWARK: unknown
footprint SMF5_1
part A pins: 1 A1, 2 E2, 4 A2, 5 E1
part B pins: S

## SMF51-4-51-2451
designator TR?, comment RF TRANSFORMER   SMD tunable RF transformer
OC_FARNELL: unknown; OC_NEWARK: unknown
footprint SMF5_1
part A pins: 1 E2, 2 A1, 4 E1, 5 A2
part B pins: S

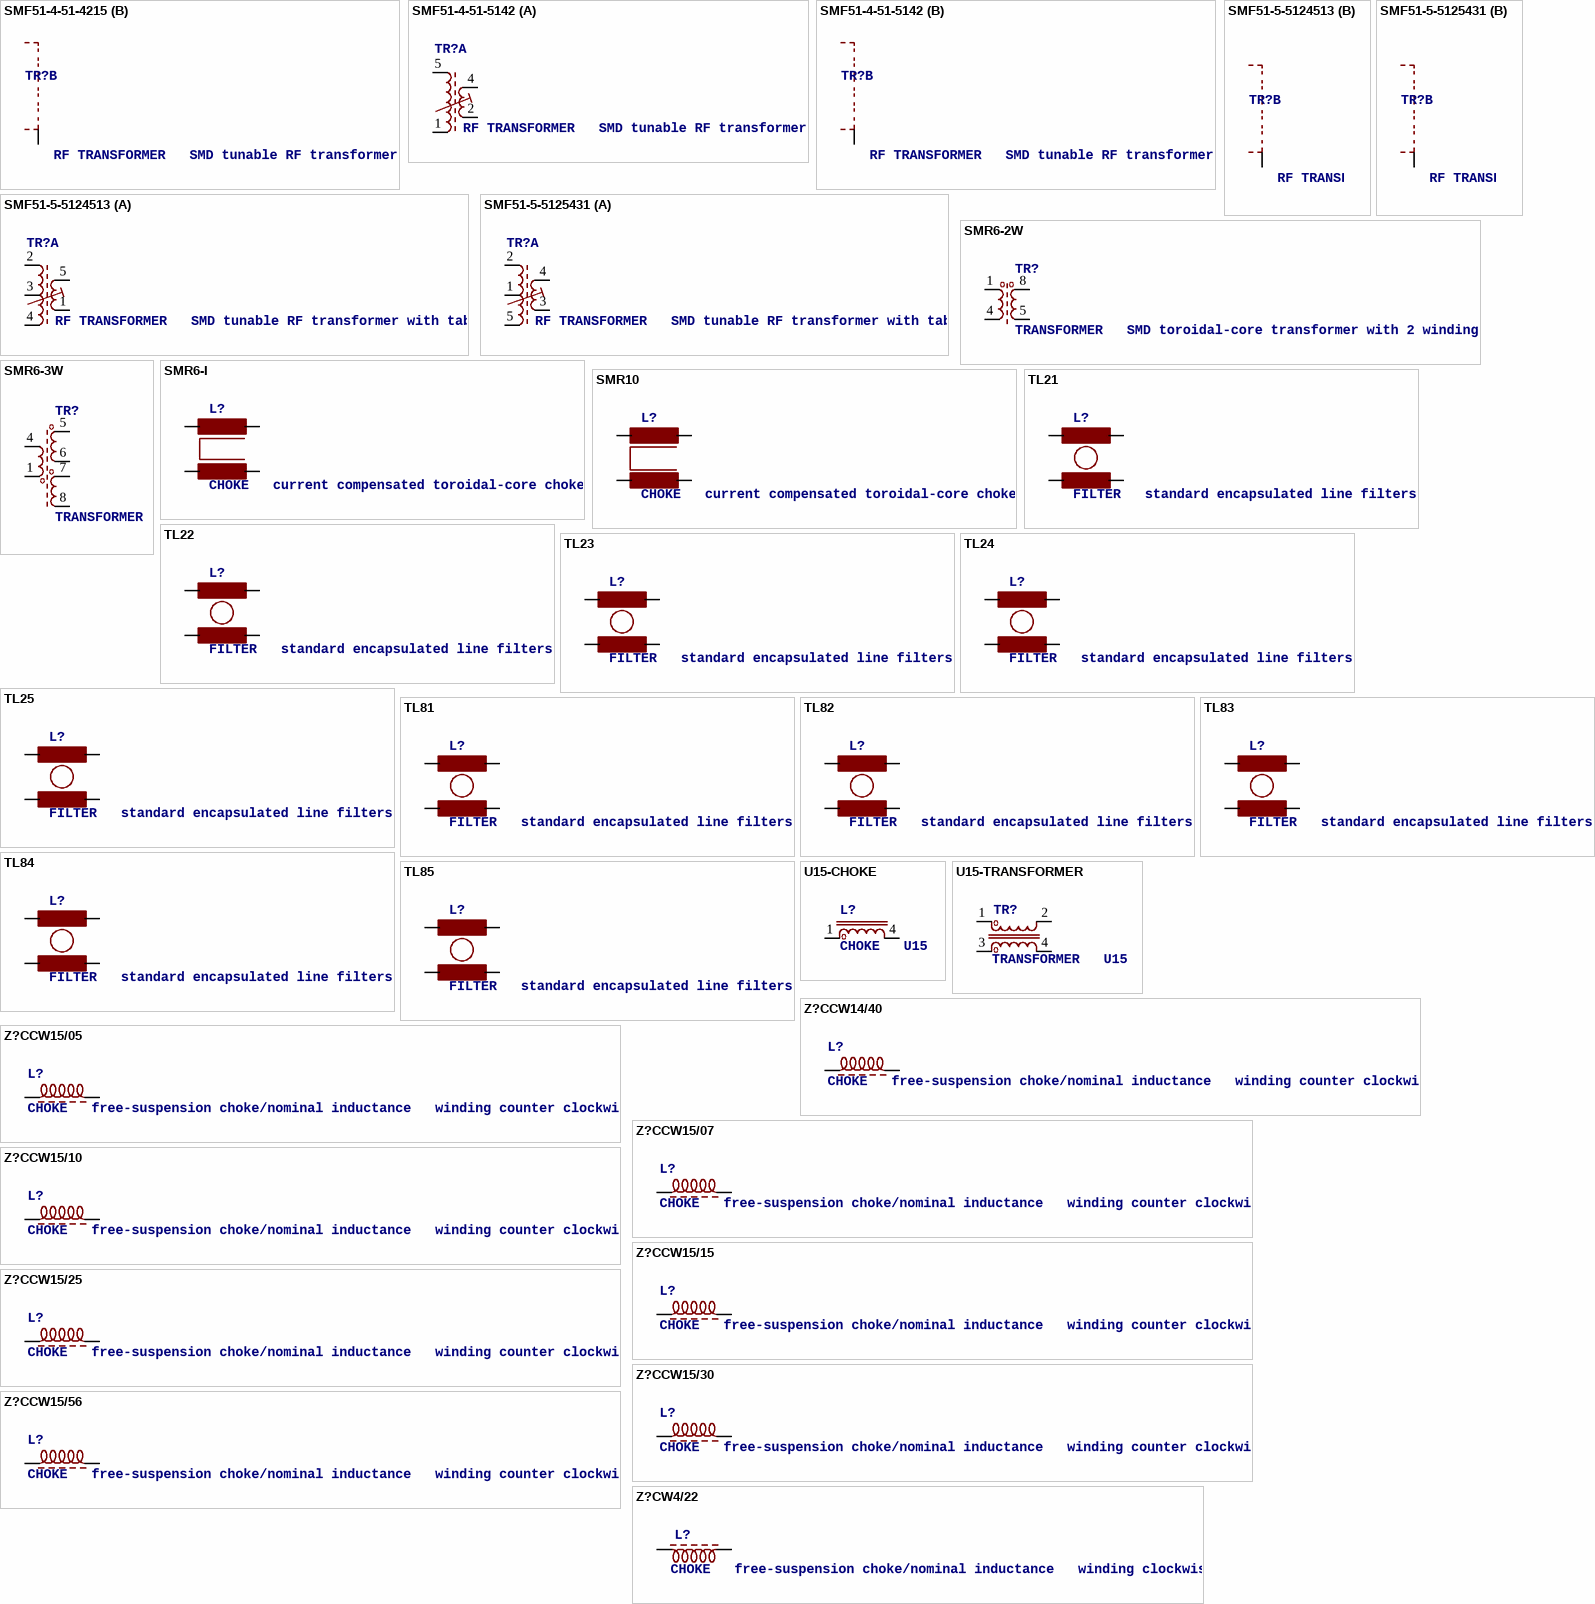
[diagram p13: symbols SMF51-4-51-4215 to Z?CW4/22]

## SMF51-4-51-4215
designator TR?, comment RF TRANSFORMER   SMD tunable RF transformer
OC_FARNELL: unknown; OC_NEWARK: unknown
footprint SMF5_1
part A pins: 1 A2, 2 E1, 4 A1, 5 E2
part B pins: S

## SMF51-4-51-5142
designator TR?, comment RF TRANSFORMER   SMD tunable RF transformer
OC_FARNELL: unknown; OC_NEWARK: unknown
footprint SMF5_1
part A pins: 1 E1, 2 E2, 4 A2, 5 A1
part B pins: S

## SMF51-5-5124513
designator TR?, comment RF TRANSFORMER   SMD tunable RF transformer with tab
OC_FARNELL: unknown; OC_NEWARK: unknown
footprint SMF5_1
part A pins: 1 E2, 2 A1, 3 Z, 4 E1, 5 A2
part B pins: S

## SMF51-5-5125431
designator TR?, comment RF TRANSFORMER   SMD tunable RF transformer with tab
OC_FARNELL: unknown; OC_NEWARK: unknown
footprint SMF5_1
part A pins: 1 Z, 2 A1, 3 E2, 4 A2, 5 E1
part B pins: S

## SMR6-2W
designator TR?, comment TRANSFORMER   SMD toroidal-core transformer with 2 windings
OC_FARNELL: unknown; OC_NEWARK: unknown
footprint SM-R6
pins: 1, 4, 5, 8

## SMR6-3W
designator TR?, comment TRANSFORMER   SMD toroidal-core transformer with 3 windings
OC_FARNELL: unknown; OC_NEWARK: unknown
footprint SM-R6
pins: 1, 4, 5, 6, 7, 8

## SMR6-I
designator L?, comment CHOKE   current compensated toroidal-core choke
OC_FARNELL: unknown; OC_NEWARK: unknown
footprint SM-R6
pins: 1, 4, 5, 8

## SMR10
designator L?, comment CHOKE   current compensated toroidal-core choke
MPN: SMR1010; OC_FARNELL: unknown; OC_NEWARK: 14P7197
footprint SM-R10
pins: 1, 5, 6, 10

## TL21
designator L?, comment FILTER   standard encapsulated line filters
OC_FARNELL: unknown; OC_NEWARK: unknown
footprint TL21
pins: 1, 2, 3, 4

## TL22
designator L?, comment FILTER   standard encapsulated line filters
OC_FARNELL: unknown; OC_NEWARK: unknown
footprint TL22
pins: 1, 2, 3, 4

## TL23
designator L?, comment FILTER   standard encapsulated line filters
OC_FARNELL: unknown; OC_NEWARK: unknown
footprint TL23
pins: 1, 2, 3, 4

## TL24
designator L?, comment FILTER   standard encapsulated line filters
OC_FARNELL: unknown; OC_NEWARK: unknown
footprint TL24
pins: 1, 2, 3, 4

## TL25
designator L?, comment FILTER   standard encapsulated line filters
OC_FARNELL: unknown; OC_NEWARK: unknown
footprint TL25
pins: 1, 2, 3, 4

## TL81
designator L?, comment FILTER   standard encapsulated line filters
OC_FARNELL: unknown; OC_NEWARK: unknown
footprint TL81
pins: 1, 2, 3, 4

## TL82
designator L?, comment FILTER   standard encapsulated line filters
OC_FARNELL: 9479767; OC_NEWARK: unknown
footprint TL82
pins: 1, 2, 3, 4

## TL83
designator L?, comment FILTER   standard encapsulated line filters
OC_FARNELL: unknown; OC_NEWARK: unknown
footprint TL83
pins: 1, 2, 3, 4

## TL84
designator L?, comment FILTER   standard encapsulated line filters
OC_FARNELL: unknown; OC_NEWARK: unknown
footprint TL84
pins: 1, 2, 3, 4

## TL85
designator L?, comment FILTER   standard encapsulated line filters
OC_FARNELL: unknown; OC_NEWARK: unknown
footprint TL85
pins: 1, 2, 3, 4

## U15-CHOKE
designator L?, comment CHOKE   U15
OC_FARNELL: unknown; OC_NEWARK: unknown
footprint U15CHOKE
pins: 1, 4

## U15-TRANSFORMER
designator TR?, comment TRANSFORMER   U15
OC_FARNELL: unknown; OC_NEWARK: unknown
footprint U15
pins: 1, 2, 3, 4

## Z?CCW14/40
designator L?, comment CHOKE   free-suspension choke/nominal inductance   winding counter clockwise
OC_FARNELL: unknown; OC_NEWARK: unknown
footprint Z15/4
pins: 1, 2

## Z?CCW15/05
designator L?, comment CHOKE   free-suspension choke/nominal inductance   winding counter clockwise
OC_FARNELL: unknown; OC_NEWARK: unknown
footprint Z15/05
pins: 1, 2

## Z?CCW15/07
designator L?, comment CHOKE   free-suspension choke/nominal inductance   winding counter clockwise
OC_FARNELL: unknown; OC_NEWARK: unknown
footprint Z15/07
pins: 1, 2

## Z?CCW15/10
designator L?, comment CHOKE   free-suspension choke/nominal inductance   winding counter clockwise
OC_FARNELL: unknown; OC_NEWARK: unknown
footprint Z15/1
pins: 1, 2

## Z?CCW15/15
designator L?, comment CHOKE   free-suspension choke/nominal inductance   winding counter clockwise
OC_FARNELL: unknown; OC_NEWARK: unknown
footprint Z15/15
pins: 1, 2

## Z?CCW15/25
designator L?, comment CHOKE   free-suspension choke/nominal inductance   winding counter clockwise
OC_FARNELL: unknown; OC_NEWARK: unknown
footprint Z15/25
pins: 1, 2

## Z?CCW15/30
designator L?, comment CHOKE   free-suspension choke/nominal inductance   winding counter clockwise
OC_FARNELL: unknown; OC_NEWARK: unknown
footprint Z15/3
pins: 1, 2

## Z?CCW15/56
designator L?, comment CHOKE   free-suspension choke/nominal inductance   winding counter clockwise
OC_FARNELL: unknown; OC_NEWARK: unknown
footprint Z15/56
pins: 1, 2

## Z?CW4/22
designator L?, comment CHOKE   free-suspension choke/nominal inductance   winding clockwise
OC_FARNELL: unknown; OC_NEWARK: unknown
footprint Z4/22
pins: 1, 2

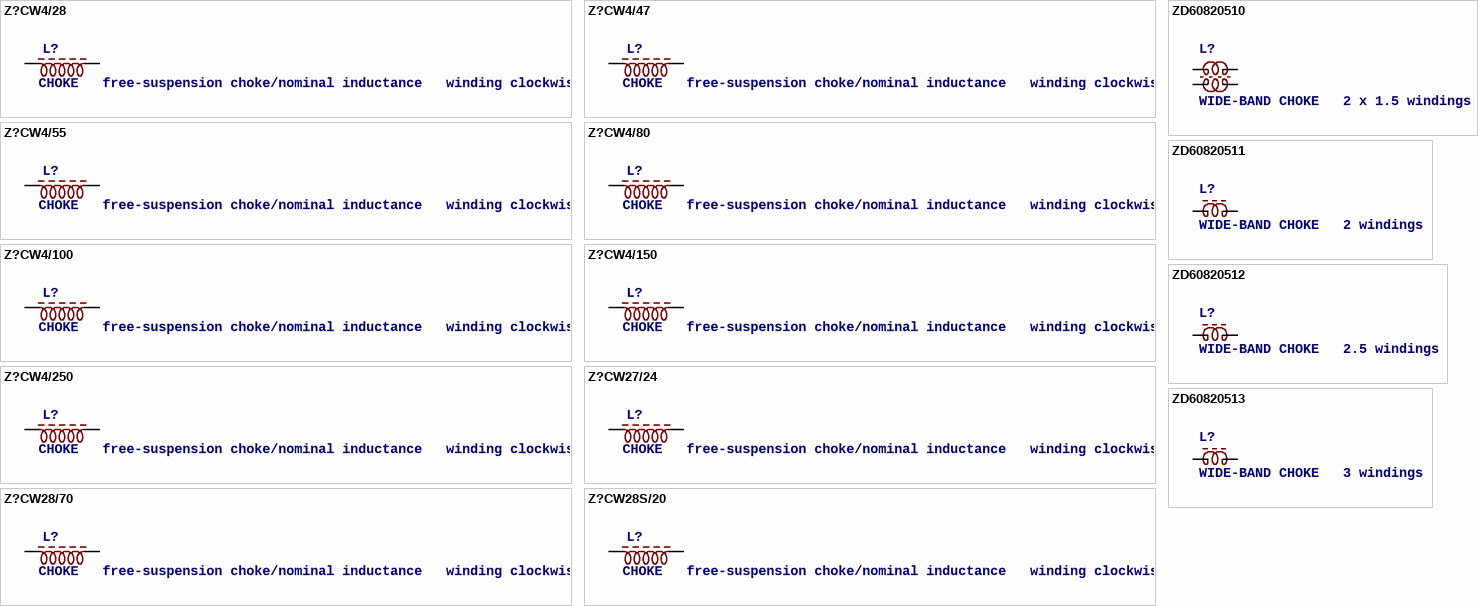
[diagram p14: symbols Z?CW4/28 to ZD60820513]

## Z?CW4/28
designator L?, comment CHOKE   free-suspension choke/nominal inductance   winding clockwise
OC_FARNELL: unknown; OC_NEWARK: unknown
footprint Z4/28
pins: 1, 2

## Z?CW4/47
designator L?, comment CHOKE   free-suspension choke/nominal inductance   winding clockwise
OC_FARNELL: unknown; OC_NEWARK: unknown
footprint Z4/47
pins: 1, 2

## Z?CW4/55
designator L?, comment CHOKE   free-suspension choke/nominal inductance   winding clockwise
OC_FARNELL: unknown; OC_NEWARK: unknown
footprint Z4/55
pins: 1, 2

## Z?CW4/80
designator L?, comment CHOKE   free-suspension choke/nominal inductance   winding clockwise
OC_FARNELL: unknown; OC_NEWARK: unknown
footprint Z4/8
pins: 1, 2

## Z?CW4/100
designator L?, comment CHOKE   free-suspension choke/nominal inductance   winding clockwise
OC_FARNELL: unknown; OC_NEWARK: unknown
footprint Z4/10
pins: 1, 2

## Z?CW4/150
designator L?, comment CHOKE   free-suspension choke/nominal inductance   winding clockwise
OC_FARNELL: unknown; OC_NEWARK: unknown
footprint Z4/15
pins: 1, 2

## Z?CW4/250
designator L?, comment CHOKE   free-suspension choke/nominal inductance   winding clockwise
OC_FARNELL: unknown; OC_NEWARK: unknown
footprint Z4/25
pins: 1, 2

## Z?CW27/24
designator L?, comment CHOKE   free-suspension choke/nominal inductance   winding clockwise
OC_FARNELL: unknown; OC_NEWARK: unknown
footprint Z27/24
pins: 1, 2

## Z?CW28/70
designator L?, comment CHOKE   free-suspension choke/nominal inductance   winding clockwise
OC_FARNELL: unknown; OC_NEWARK: unknown
footprint Z28/7
pins: 1, 2

## Z?CW28S/20
designator L?, comment CHOKE   free-suspension choke/nominal inductance   winding clockwise
OC_FARNELL: unknown; OC_NEWARK: unknown
footprint Z28S/2
pins: 1, 2

## ZD60820510
designator L?, comment WIDE-BAND CHOKE   2 x 1.5 windings
OC_FARNELL: unknown; OC_NEWARK: unknown
footprint ZD6-2X15
pins: 1, 2, 3, 4

## ZD60820511
designator L?, comment WIDE-BAND CHOKE   2 windings
OC_FARNELL: unknown; OC_NEWARK: unknown
footprint ZD6-2W
pins: 1, 2

## ZD60820512
designator L?, comment WIDE-BAND CHOKE   2.5 windings
OC_FARNELL: unknown; OC_NEWARK: unknown
footprint ZD6-2W5
pins: 1, 2

## ZD60820513
designator L?, comment WIDE-BAND CHOKE   3 windings
OC_FARNELL: unknown; OC_NEWARK: unknown
footprint ZD6-3W
pins: 1, 2